# Altium integrated library Seeed-OPL-Connector.IntLib: 227 symbols
Pins are listed as number, name and electrical type; pins without a type are passive.

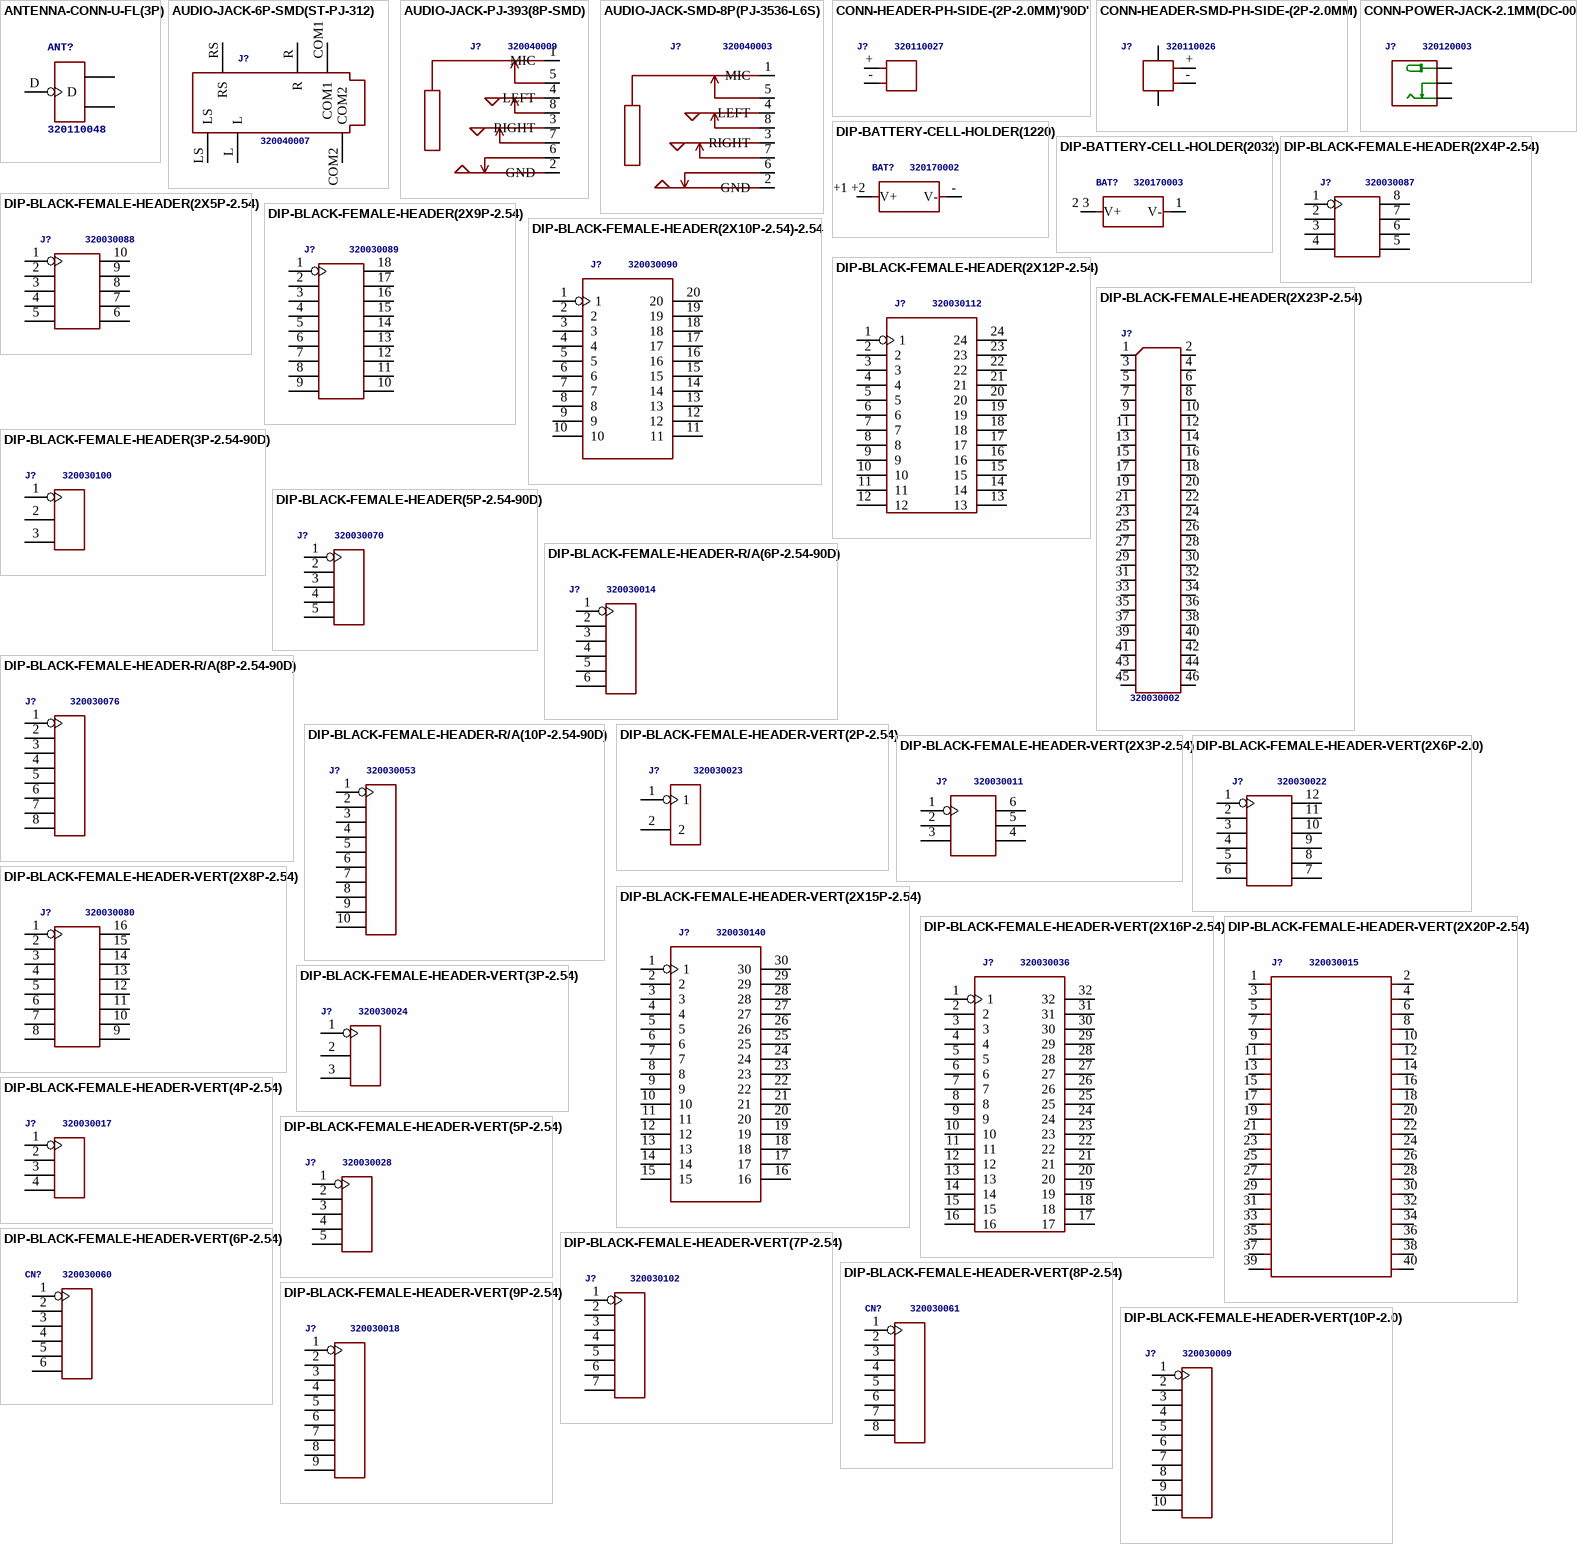
[diagram p0: symbols ANTENNA-CONN-U-FL(3P) to DIP-BLACK-FEMALE-HEADER-VERT(10P-2.0)]

## ANTENNA-CONN-U-FL(3P)
designator ANT?, comment 320110048
footprint U-FL3P-SMD-2.6X2.6X1.0MM
pins: D, GND1, GND2

## AUDIO-JACK-6P-SMD(ST-PJ-312)
designator J?, comment 320040007
MPN: ST-PJ-312
footprint AUDIO6P-SMD-3.5-14.0X6.4X5.0MM
pins: COM1, COM2, L, LS, R, RS

## AUDIO-JACK-PJ-393(8P-SMD)
designator J?, comment 320040009
MPN: PJ-393
footprint AUDIO8P-SMD-3.5-14.5X6.1X4.0MM
pins: 1 MIC, 2 GND, 3 RIGHT, 4 LEFT, 5, 6, 7, 8

## AUDIO-JACK-SMD-8P(PJ-3536-L6S)
designator J?, comment 320040003
MPN: PJ-3536-L6S
footprint AUDIO8P-SMD-3.5-14.5X6X5MM
pins: 1 MIC, 2 GND, 3 RIGHT, 4 LEFT, 5, 6, 7, 8

## CONN-HEADER-PH-SIDE-(2P-2.0MM)'90D'
designator J?, comment 320110027
footprint H2-2.0-90D
pins: + P$1, - P$2

## CONN-HEADER-SMD-PH-SIDE-(2P-2.0MM)
designator J?, comment 320110026
footprint HW2-SMD-2.0-90D
pins: 3, 4, + 1, - 2

## CONN-POWER-JACK-2.1MM(DC-005)
designator J?, comment 320120003
MPN: DC-005
footprint DCJ3P-14.2X11.0X9.0MM
pins: +, -1 -, -2 CDN

## DIP-BATTERY-CELL-HOLDER(1220)
designator BAT?, comment 320170002
footprint BAT2P-13.5-CR1220
pins: +1 +2 V+, - V-

## DIP-BATTERY-CELL-HOLDER(2032)
designator BAT?, comment 320170003
footprint BAT2P-20.32-CR2032
pins: 1 V-, 2 3 V+

## DIP-BLACK-FEMALE-HEADER(2X4P-2.54)
designator J?, comment 320030087
footprint H2X4-2.54
pins: 1, 2, 3, 4, 5, 6, 7, 8

## DIP-BLACK-FEMALE-HEADER(2X5P-2.54)
designator J?, comment 320030088
MPN: F185-1210A0BSYA1
footprint H2X5-2.54
pins: 1, 2, 3, 4, 5, 6, 7, 8, 9, 10

## DIP-BLACK-FEMALE-HEADER(2X9P-2.54)
designator J?, comment 320030089
MPN: F185-1218A0BSYA1
footprint H2X9-2.54
pins: 1, 2, 3, 4, 5, 6, 7, 8, 9, 10, 11, 12, 13, 14, 15, 16, 17, 18

## DIP-BLACK-FEMALE-HEADER(2X10P-2.54)-2.54
designator J?, comment 320030090
MPN: F185-1210A0BA1
footprint H2X10-2.54
pins: 1, 2, 3, 4, 5, 6, 7, 8, 9, 10, 11, 12, 13, 14, 15, 16, 17, 18, 19, 20

## DIP-BLACK-FEMALE-HEADER(2X12P-2.54)
designator J?, comment 320030112
MPN: F185-1224A0BSYA1
footprint H2X12-2.54
pins: 1, 2, 3, 4, 5, 6, 7, 8, 9, 10, 11, 12, 13, 14, 15, 16, 17, 18, 19, 20, 21, 22, 23, 24

## DIP-BLACK-FEMALE-HEADER(2X23P-2.54)
designator J?, comment 320030002
MPN: F185-1223A0ASYC1
footprint H2X23-2.54
pins: 1 P$1, 2 P$2, 3 P$3, 4 P$4, 5 P$5, 6 P$6, 7 P$7, 8 P$8, 9 P$9, 10 P$10, 11 P$11, 12 P$12, 13 P$13, 14 P$14, 15 P$15, 16 P$16, 17 P$17, 18 P$18, 19 P$19, 20 P$20, 21 P$21, 22 P$22, 23 P$23, 24 P$24, 25 P$25, 26 P$26, 27 P$27, 28 P$28, 29 P$29, 30 P$30, 31 P$31, 32 P$32, 33 P$33, 34 P$34, 35 P$35, 36 P$36, 37 P$37, 38 P$38, 39 P$39, 40 P$40, 41 P$41, 42 P$42, 43 P$43, 44 P$44, 45 P$45, 46 P$46

## DIP-BLACK-FEMALE-HEADER(3P-2.54-90D)
designator J?, comment 320030100
footprint H3-2.54-90D-FEMALE
pins: 1 P$1, 2 P$2, 3 P$3

## DIP-BLACK-FEMALE-HEADER(5P-2.54-90D)
designator J?, comment 320030070
MPN: F185-1105A1BRYA1
footprint H5-2.54-90D-FEMALE
pins: 1, 2, 3, 4, 5

## DIP-BLACK-FEMALE-HEADER-R/A(6P-2.54-90D)
designator J?, comment 320030014
footprint H6-2.54-90D-FEMALE
pins: 1, 2, 3, 4, 5, 6

## DIP-BLACK-FEMALE-HEADER-R/A(8P-2.54-90D)
designator J?, comment 320030076
footprint H8-2.54-90D-FEMALE
pins: 1, 2, 3, 4, 5, 6, 7, 8

## DIP-BLACK-FEMALE-HEADER-R/A(10P-2.54-90D)
designator J?, comment 320030053
footprint H10-2.54-90D-FEMALE
pins: 1, 2, 3, 4, 5, 6, 7, 8, 9, 10

## DIP-BLACK-FEMALE-HEADER-VERT(2P-2.54)
designator J?, comment 320030023
MPN: F185-1102A1BSYA1
footprint H2-2.54
pins: 1, 2

## DIP-BLACK-FEMALE-HEADER-VERT(2X3P-2.54)
designator J?, comment 320030011
MPN: F185-1203A1BSYA1
footprint H2X3-2.54
pins: 1, 2, 3, 4, 5, 6

## DIP-BLACK-FEMALE-HEADER-VERT(2X6P-2.0)
designator J?, comment 320030022
footprint H2X6-2.0
pins: 1, 2, 3, 4, 5, 6, 7, 8, 9, 10, 11, 12

## DIP-BLACK-FEMALE-HEADER-VERT(2X8P-2.54)
designator J?, comment 320030080
MPN: F185-1216A0BSYA1
footprint H2X8-2.54
pins: 1, 2, 3, 4, 5, 6, 7, 8, 9, 10, 11, 12, 13, 14, 15, 16

## DIP-BLACK-FEMALE-HEADER-VERT(2X15P-2.54)
designator J?, comment 320030140
MPN: F185-1230A0BSYA1
footprint H2X15-2.54
pins: 1, 2, 3, 4, 5, 6, 7, 8, 9, 10, 11, 12, 13, 14, 15, 16, 17, 18, 19, 20, 21, 22, 23, 24, 25, 26, 27, 28, 29, 30

## DIP-BLACK-FEMALE-HEADER-VERT(2X16P-2.54)
designator J?, comment 320030036
MPN: F185-1232A0BSYA1
footprint H2X16-2.54
pins: 1, 2, 3, 4, 5, 6, 7, 8, 9, 10, 11, 12, 13, 14, 15, 16, 17, 18, 19, 20, 21, 22, 23, 24, 25, 26, 27, 28, 29, 30, 31, 32

## DIP-BLACK-FEMALE-HEADER-VERT(2X20P-2.54)
designator J?, comment 320030015
MPN: F185-1240A0BSYA1
footprint H2X23-2.54
pins: 1 3.3V, 2 5V, 3 GPIO02, 4 5V@1, 5 GPIO03, 6 GND@~{7}, 7 GPIO04, 8 GPIO14, 9 GND, 10 GPIO15, 11 GPIO17, 12 GPIO18, 13 GPIO27, 14 GND@6, 15 GPIO22, 16 GPIO23, 17 3.3V@1, 18 GPIO24, 19 GPIO10, 20 GND@5, 21 GPIO09, 22 GPIO25, 23 GPIO11, 24 GPIO08, 25 GND@1, 26 GPIO07, 27 ID_SD, 28 ID_SC, 29 GPIO05, 30 GND@4, 31 GPIO06, 32 GPIO12, 33 GPIO13, 34 GND@3, 35 GPIO19, 36 GPIO16, 37 GPIO26, 38 GPIO20, 39 GND@2, 40 GPIO21

## DIP-BLACK-FEMALE-HEADER-VERT(3P-2.54)
designator J?, comment 320030024
MPN: F185-1103A0BSYA1
footprint H3-2.54
pins: 1 P$1, 2 P$2, 3 P$3

## DIP-BLACK-FEMALE-HEADER-VERT(4P-2.54)
designator J?, comment 320030017
MPN: F185-1104A1BSYA1
footprint H4-2.54
pins: 1 P$1, 2 P$2, 3 P$3, 4 P$4

## DIP-BLACK-FEMALE-HEADER-VERT(5P-2.54)
designator J?, comment 320030028
MPN: F185-1105A0BSYA1
footprint H5-2.54
pins: 1, 2, 3, 4, 5

## DIP-BLACK-FEMALE-HEADER-VERT(6P-2.54)
designator CN?, comment 320030060
MPN: F185-1106A1BSYC1
footprint H6-2.54
pins: 1, 2, 3, 4, 5, 6

## DIP-BLACK-FEMALE-HEADER-VERT(7P-2.54)
designator J?, comment 320030102
MPN: F185-1107A0BSYA1
footprint H7-2.54
pins: 1, 2, 3, 4, 5, 6, 7

## DIP-BLACK-FEMALE-HEADER-VERT(8P-2.54)
designator CN?, comment 320030061
MPN: F185-1108A1BSYC1
footprint H8-2.54
pins: 1, 2, 3, 4, 5, 6, 7, 8

## DIP-BLACK-FEMALE-HEADER-VERT(9P-2.54)
designator J?, comment 320030018
MPN: F243-1109A0BMUB2
footprint H9-2.54
pins: 1, 2, 3, 4, 5, 6, 7, 8, 9

## DIP-BLACK-FEMALE-HEADER-VERT(10P-2.0)
designator J?, comment 320030009
MPN: F243-1110A1BSUA1
footprint H10-2.0
pins: 1, 2, 3, 4, 5, 6, 7, 8, 9, 10

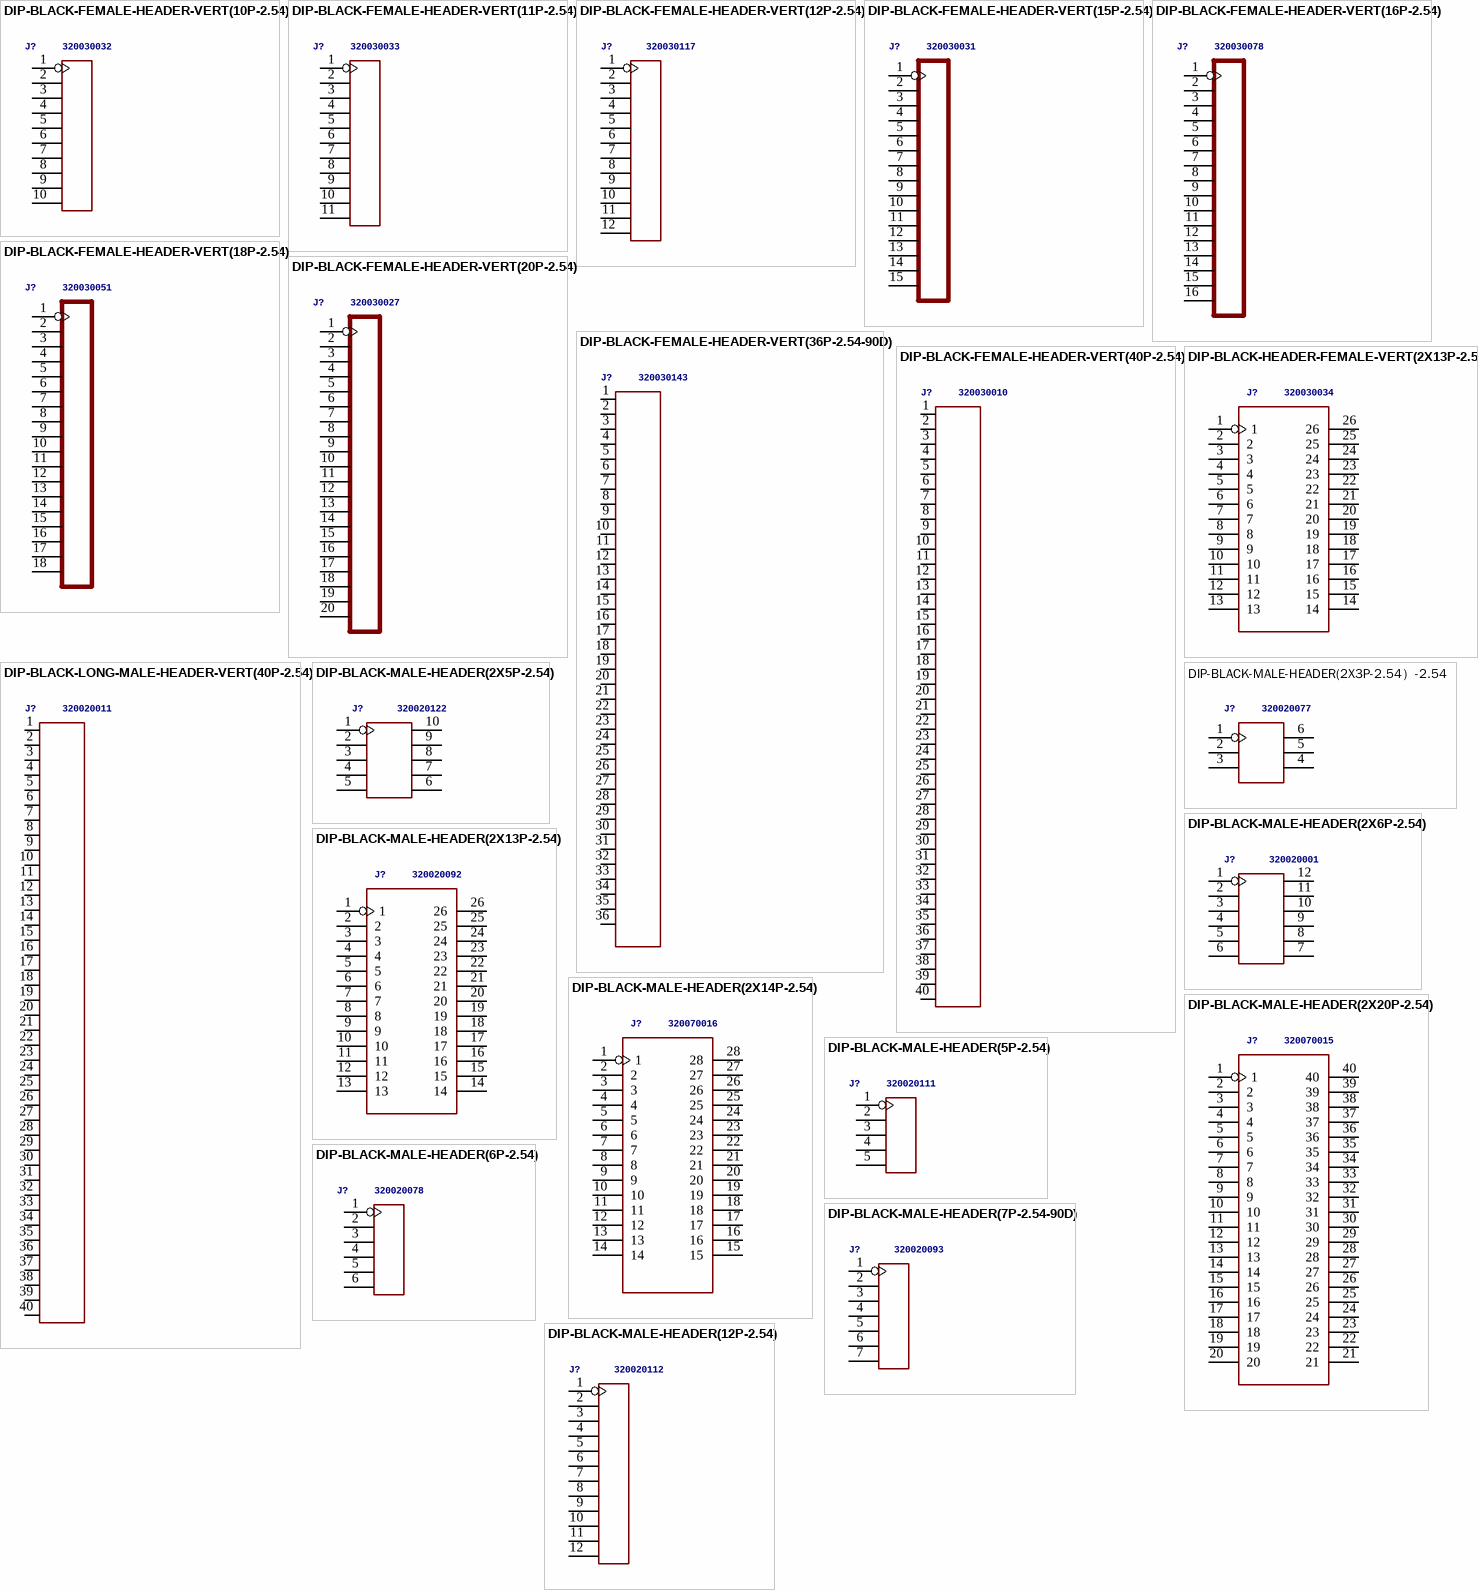
[diagram p1: symbols DIP-BLACK-FEMALE-HEADER-VERT(10P-2.54) to DIP-BLACK-MALE-HEADER(12P-2.54)]

## DIP-BLACK-FEMALE-HEADER-VERT(10P-2.54)
designator J?, comment 320030032
footprint H10-2.54
pins: 1, 2, 3, 4, 5, 6, 7, 8, 9, 10

## DIP-BLACK-FEMALE-HEADER-VERT(11P-2.54)
designator J?, comment 320030033
MPN: F185-1111A0BSYA1
footprint H11-2.54
pins: 1, 2, 3, 4, 5, 6, 7, 8, 9, 10, 11

## DIP-BLACK-FEMALE-HEADER-VERT(12P-2.54)
designator J?, comment 320030117
MPN: F185-1112A0BSYA1
footprint H12-2.54
pins: 1, 2, 3, 4, 5, 6, 7, 8, 9, 10, 11, 12

## DIP-BLACK-FEMALE-HEADER-VERT(15P-2.54)
designator J?, comment 320030031
footprint H15-2.54
pins: 1, 2, 3, 4, 5, 6, 7, 8, 9, 10, 11, 12, 13, 14, 15

## DIP-BLACK-FEMALE-HEADER-VERT(16P-2.54)
designator J?, comment 320030078
MPN: F185-1116A0BSYA1
footprint H16-2.54
pins: 1, 2, 3, 4, 5, 6, 7, 8, 9, 10, 11, 12, 13, 14, 15, 16

## DIP-BLACK-FEMALE-HEADER-VERT(18P-2.54)
designator J?, comment 320030051
MPN: F185-1118A0BSYA1
footprint H18-2.54
pins: 1, 2, 3, 4, 5, 6, 7, 8, 9, 10, 11, 12, 13, 14, 15, 16, 17, 18

## DIP-BLACK-FEMALE-HEADER-VERT(20P-2.54)
designator J?, comment 320030027
MPN: F185-1120A0BSYA1
footprint H20-2.54
pins: 1, 2, 3, 4, 5, 6, 7, 8, 9, 10, 11, 12, 13, 14, 15, 16, 17, 18, 19, 20

## DIP-BLACK-FEMALE-HEADER-VERT(36P-2.54-90D)
designator J?, comment 320030143
MPN: DIP-Black-Female-Header-VERT
footprint H36-2.54-90D-FEMALE
pins: 1 P$1, 2 P$2, 3 P$3, 4 P$4, 5 P$5, 6 P$6, 7 P$7, 8 P$8, 9 P$9, 10 P$10, 11 P$11, 12 P$12, 13 P$13, 14 P$14, 15 P$15, 16 P$16, 17 P$17, 18 P$18, 19 P$19, 20 P$20, 21 P$21, 22 P$22, 23 P$23, 24 P$24, 25 P$25, 26 P$26, 27 P$27, 28 P$28, 29 P$29, 30 P$30, 31 P$31, 32 P$32, 33 P$33, 34 P$34, 35 P$35, 36 P$36

## DIP-BLACK-FEMALE-HEADER-VERT(40P-2.54)
designator J?, comment 320030010
MPN: F185-1140A0BSYA1
footprint H40-2.54
pins: 1 P$1, 2 P$2, 3 P$3, 4 P$4, 5 P$5, 6 P$6, 7 P$7, 8 P$8, 9 P$9, 10 P$10, 11 P$11, 12 P$12, 13 P$13, 14 P$14, 15 P$15, 16 P$16, 17 P$17, 18 P$18, 19 P$19, 20 P$20, 21 P$21, 22 P$22, 23 P$23, 24 P$24, 25 P$25, 26 P$26, 27 P$27, 28 P$28, 29 P$29, 30 P$30, 31 P$31, 32 P$32, 33 P$33, 34 P$34, 35 P$35, 36 P$36, 37 P$37, 38 P$38, 39 P$39, 40 P$40

## DIP-BLACK-HEADER-FEMALE-VERT(2X13P-2.54)
designator J?, comment 320030034
MPN: F185-1226A0BSYB1
footprint H2X13-2.54
pins: 1, 2, 3, 4, 5, 6, 7, 8, 9, 10, 11, 12, 13, 14, 15, 16, 17, 18, 19, 20, 21, 22, 23, 24, 25, 26

## DIP-BLACK-LONG-MALE-HEADER-VERT(40P-2.54)
designator J?, comment 320020011
MPN: P125-1140AOBS210A1
footprint H40-2.54
pins: 1 P$1, 2 P$2, 3 P$3, 4 P$4, 5 P$5, 6 P$6, 7 P$7, 8 P$8, 9 P$9, 10 P$10, 11 P$11, 12 P$12, 13 P$13, 14 P$14, 15 P$15, 16 P$16, 17 P$17, 18 P$18, 19 P$19, 20 P$20, 21 P$21, 22 P$22, 23 P$23, 24 P$24, 25 P$25, 26 P$26, 27 P$27, 28 P$28, 29 P$29, 30 P$30, 31 P$31, 32 P$32, 33 P$33, 34 P$34, 35 P$35, 36 P$36, 37 P$37, 38 P$38, 39 P$39, 40 P$40

## DIP-BLACK-MALE-HEADER(2X3P-2.54）-2.54
designator J?, comment 320020077
MPN: P125-12A1BS116A1
footprint H2X3-2.54
pins: 1, 2, 3, 4, 5, 6

## DIP-BLACK-MALE-HEADER(2X5P-2.54)
designator J?, comment 320020122
MPN: P125-1210A0AS116A1
footprint H2X5-2.54
pins: 1, 2, 3, 4, 5, 6, 7, 8, 9, 10

## DIP-BLACK-MALE-HEADER(2X6P-2.54)
designator J?, comment 320020001
MPN: P125-1212A0AS116A1
footprint H2X6-2.54
pins: 1, 2, 3, 4, 5, 6, 7, 8, 9, 10, 11, 12

## DIP-BLACK-MALE-HEADER(2X13P-2.54)
designator J?, comment 320020092
MPN: P125-1226A0AS116A1
footprint H2X13-2.54
pins: 1, 2, 3, 4, 5, 6, 7, 8, 9, 10, 11, 12, 13, 14, 15, 16, 17, 18, 19, 20, 21, 22, 23, 24, 25, 26

## DIP-BLACK-MALE-HEADER(2X14P-2.54)
designator J?, comment 320070016
MPN: ICS-28P-15.24
footprint H2X14-2.54
pins: 1, 2, 3, 4, 5, 6, 7, 8, 9, 10, 11, 12, 13, 14, 15, 16, 17, 18, 19, 20, 21, 22, 23, 24, 25, 26, 27, 28

## DIP-BLACK-MALE-HEADER(2X20P-2.54)
designator J?, comment 320070015
MPN: ICS-40P-15.24
footprint H2X23-2.54
pins: 1, 2, 3, 4, 5, 6, 7, 8, 9, 10, 11, 12, 13, 14, 15, 16, 17, 18, 19, 20, 21, 22, 23, 24, 25, 26, 27, 28, 29, 30, 31, 32, 33, 34, 35, 36, 37, 38, 39, 40

## DIP-BLACK-MALE-HEADER(5P-2.54)
designator J?, comment 320020111
MPN: P125-1105A0BASYA1
footprint H5-2.54
pins: 1, 2, 3, 4, 5

## DIP-BLACK-MALE-HEADER(6P-2.54)
designator J?, comment 320020078
MPN: P125-1106A1BS116A1
footprint H6-2.54
pins: 1, 2, 3, 4, 5, 6

## DIP-BLACK-MALE-HEADER(7P-2.54-90D)
designator J?, comment 320020093
MPN: P125-1107A0BR138A1
footprint H7-2.54-90D-MALE
pins: 1, 2, 3, 4, 5, 6, 7

## DIP-BLACK-MALE-HEADER(12P-2.54)
designator J?, comment 320020112
MPN: P125-1112A0BS116AX
footprint H12-2.54
pins: 1, 2, 3, 4, 5, 6, 7, 8, 9, 10, 11, 12

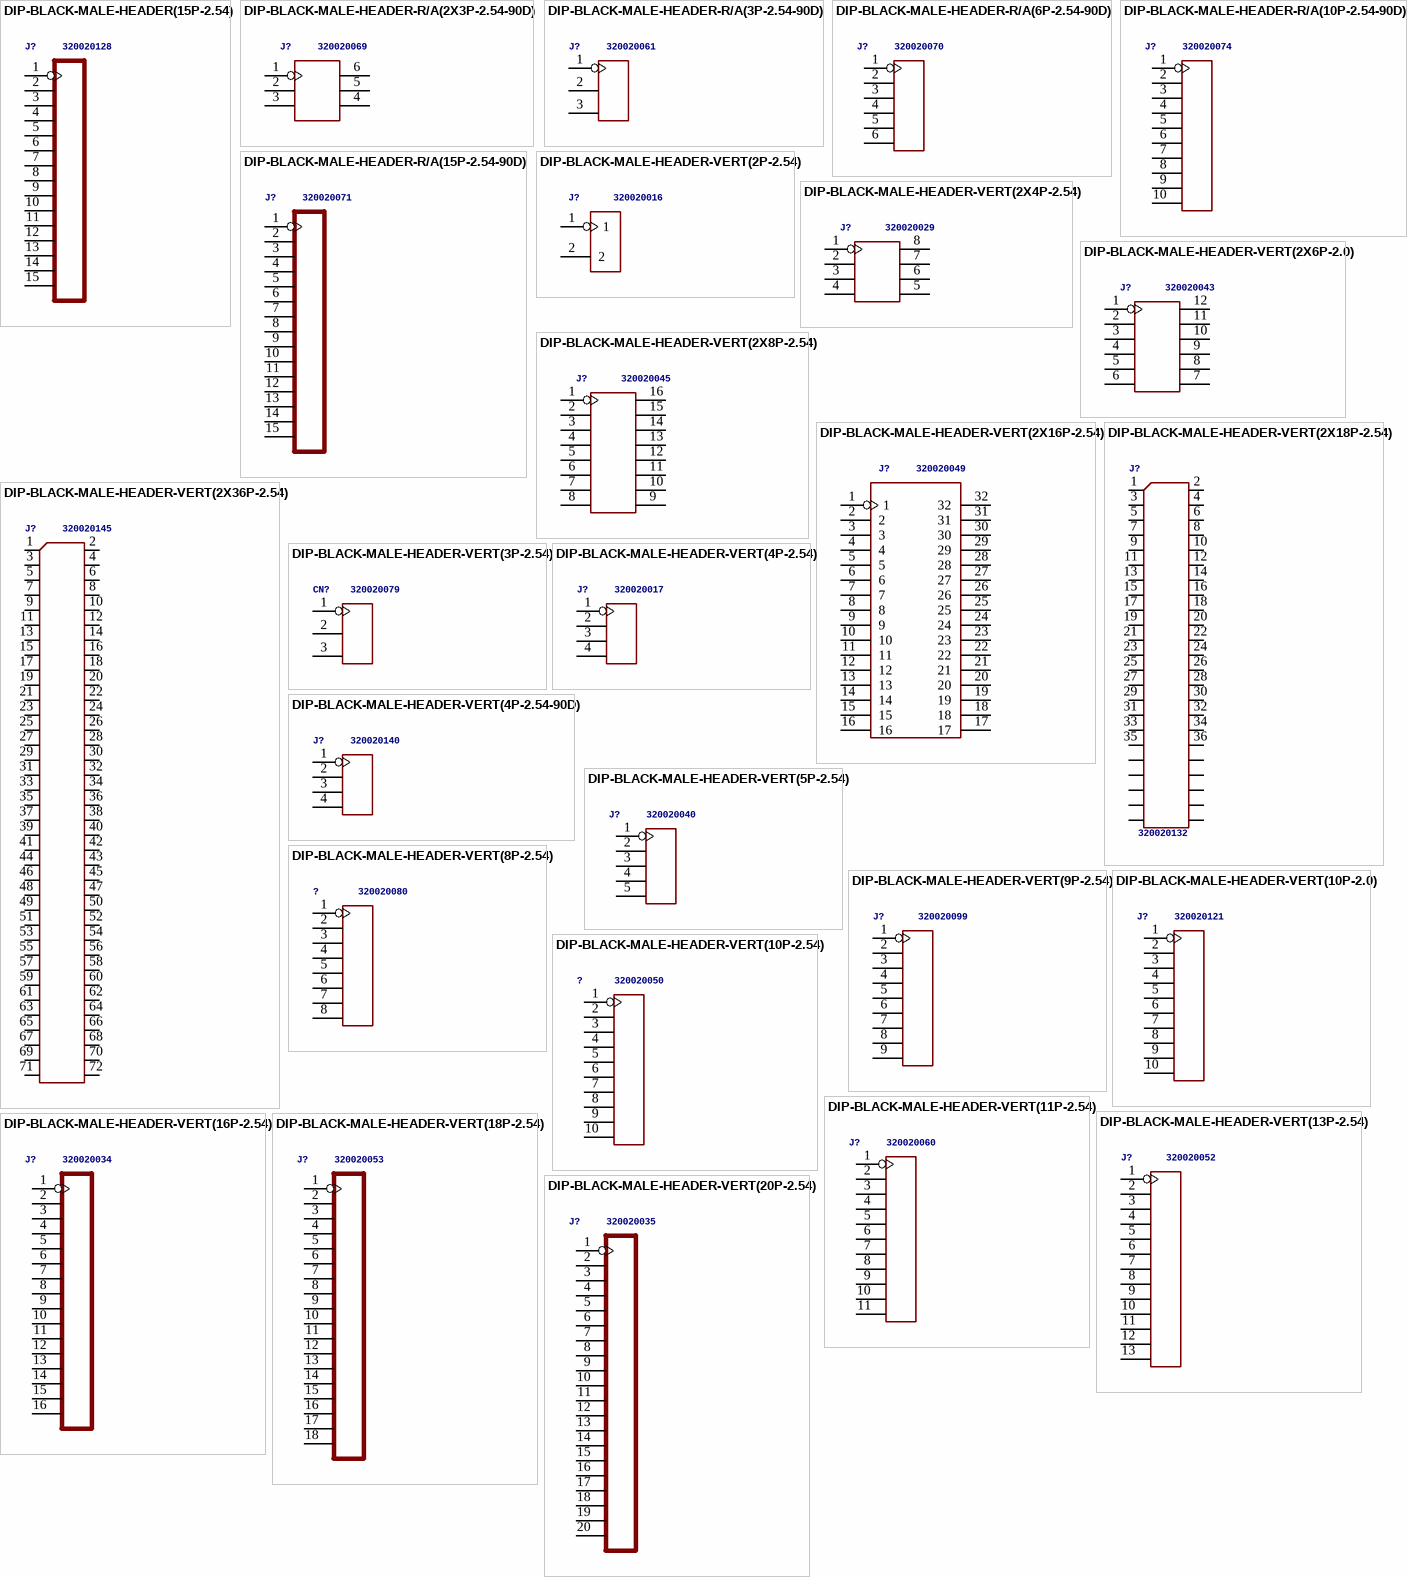
[diagram p2: symbols DIP-BLACK-MALE-HEADER(15P-2.54) to DIP-BLACK-MALE-HEADER-VERT(20P-2.54)]

## DIP-BLACK-MALE-HEADER(15P-2.54)
designator J?, comment 320020128
MPN: P125-1115A0BS116AX
footprint H15-2.54
pins: 1, 2, 3, 4, 5, 6, 7, 8, 9, 10, 11, 12, 13, 14, 15

## DIP-BLACK-MALE-HEADER-R/A(2X3P-2.54-90D)
designator J?, comment 320020069
MPN: P125-1206A0BR116A2
footprint H2X3-2.54-90D
pins: 1, 2, 3, 4, 5, 6

## DIP-BLACK-MALE-HEADER-R/A(3P-2.54-90D)
designator J?, comment 320020061
footprint H3-2.54-90D-MALE
pins: 1 P$1, 2 P$2, 3 P$3

## DIP-BLACK-MALE-HEADER-R/A(6P-2.54-90D)
designator J?, comment 320020070
footprint H6-2.54-90D-MALE
pins: 1, 2, 3, 4, 5, 6

## DIP-BLACK-MALE-HEADER-R/A(10P-2.54-90D)
designator J?, comment 320020074
footprint H10-2.54-90D-MALE
pins: 1, 2, 3, 4, 5, 6, 7, 8, 9, 10

## DIP-BLACK-MALE-HEADER-R/A(15P-2.54-90D)
designator J?, comment 320020071
MPN: P125-1115A0BR138A1
footprint H15-2.54-90D-MALE
pins: 1, 2, 3, 4, 5, 6, 7, 8, 9, 10, 11, 12, 13, 14, 15

## DIP-BLACK-MALE-HEADER-VERT(2P-2.54)
designator J?, comment 320020016
MPN: P125-1102A0BS116A1
footprint H2-2.54
pins: 1, 2

## DIP-BLACK-MALE-HEADER-VERT(2X4P-2.54)
designator J?, comment 320020029
MPN: P125-1208A0BS116A2
footprint H2X4-2.54
pins: 1, 2, 3, 4, 5, 6, 7, 8

## DIP-BLACK-MALE-HEADER-VERT(2X6P-2.0)
designator J?, comment 320020043
MPN: P220-1212A0BS116A1
footprint H2X6-2.0
pins: 1, 2, 3, 4, 5, 6, 7, 8, 9, 10, 11, 12

## DIP-BLACK-MALE-HEADER-VERT(2X8P-2.54)
designator J?, comment 320020045
MPN: P125-1216A0AS116A1
footprint H2X8-2.54
pins: 1, 2, 3, 4, 5, 6, 7, 8, 9, 10, 11, 12, 13, 14, 15, 16

## DIP-BLACK-MALE-HEADER-VERT(2X16P-2.54)
designator J?, comment 320020049
MPN: P125-1232A0AS116A1
footprint H2X16-2.54
pins: 1, 2, 3, 4, 5, 6, 7, 8, 9, 10, 11, 12, 13, 14, 15, 16, 17, 18, 19, 20, 21, 22, 23, 24, 25, 26, 27, 28, 29, 30, 31, 32

## DIP-BLACK-MALE-HEADER-VERT(2X18P-2.54)
designator J?, comment 320020132
MPN: P125-1236A0AS116A1
footprint H2X18-2.54
pins: 1 P$1, 2 P$2, 3 P$3, 4 P$4, 5 P$5, 6 P$6, 7 P$7, 8 P$8, 9 P$9, 10 P$10, 11 P$11, 12 P$12, 13 P$13, 14 P$14, 15 P$15, 16 P$16, 17 P$17, 18 P$18, 19 P$19, 20 P$20, 21 P$21, 22 P$22, 23 P$23, 24 P$24, 25 P$25, 26 P$26, 27 P$27, 28 P$28, 29 P$29, 30 P$30, 31 P$31, 32 P$32, 33 P$33, 34 P$34, 35 P$35, 36 P$36, ?1 P$37, ?2 P$38, ?3 P$39, ?4 P$40, ?5 P$41, ?6 P$42, ?7 P$43, ?8 P$44, ?9 P$45, ?10 P$46

## DIP-BLACK-MALE-HEADER-VERT(2X36P-2.54)
designator J?, comment 320020145
MPN: P125-1136A0BR116A2
footprint H2X36-2.54
pins: 1 P$1, 2 P$2, 3 P$3, 4 P$4, 5 P$5, 6 P$6, 7 P$7, 8 P$8, 9 P$9, 10 P$10, 11 P$11, 12 P$12, 13 P$13, 14 P$14, 15 P$15, 16 P$16, 17 P$17, 18 P$18, 19 P$19, 20 P$20, 21 P$21, 22 P$22, 23 P$23, 24 P$24, 25 P$25, 26 P$26, 27 P$27, 28 P$28, 29 P$29, 30 P$30, 31 P$31, 32 P$32, 33 P$33, 34 P$34, 35 P$35, 36 P$36, 37 P$37, 38 P$38, 39 P$39, 40 P$40, 41 P$41, 42 P$42, 43 P$43, 44 P$44, 45 P$45, 46 P$46, 47 P$47, 48 P$48, 49 P$49, 50 P$50, 51 P$51, 52 P$52, 53 P$53, 54 P$54, 55 P$55, 56 P$56, 57 P$57, 58 P$58, 59 P$59, 60 P$60, 61 P$61, 62 P$62, 63 P$63, 64 P$64, 65 P$65, 66 P$66, 67 P$67, 68 P$68, 69 P$69, 70 P$70, 71 P$71, 72 P$72

## DIP-BLACK-MALE-HEADER-VERT(3P-2.54)
designator CN?, comment 320020079
footprint H3-2.54
pins: 1 P$1, 2 P$2, 3 P$3

## DIP-BLACK-MALE-HEADER-VERT(4P-2.54)
designator J?, comment 320020017
MPN: P125-1104A0BS116A1
footprint H4-2.54
pins: 1 P$1, 2 P$2, 3 P$3, 4 P$4

## DIP-BLACK-MALE-HEADER-VERT(4P-2.54-90D)
designator J?, comment 320020140
MPN: P125-1104A0BR138A1
footprint H4-2.54-90D-MALE
pins: 1 P$1, 2 P$2, 3 P$3, 4 P$4

## DIP-BLACK-MALE-HEADER-VERT(5P-2.54)
designator J?, comment 320020040
footprint H5-2.54
pins: 1, 2, 3, 4, 5

## DIP-BLACK-MALE-HEADER-VERT(8P-2.54)
designator ?, comment 320020080
MPN: P125-1108A1BS116A1
footprint H8-2.54
pins: 1, 2, 3, 4, 5, 6, 7, 8

## DIP-BLACK-MALE-HEADER-VERT(9P-2.54)
designator J?, comment 320020099
MPN: P125-1109A0BS116AX
footprint H9-2.54
pins: 1, 2, 3, 4, 5, 6, 7, 8, 9

## DIP-BLACK-MALE-HEADER-VERT(10P-2.0)
designator J?, comment 320020121
footprint H10-2.0
pins: 1, 2, 3, 4, 5, 6, 7, 8, 9, 10

## DIP-BLACK-MALE-HEADER-VERT(10P-2.54)
designator ?, comment 320020050
MPN: P125-1110A0BS116AX
footprint H10-2.54
pins: 1, 2, 3, 4, 5, 6, 7, 8, 9, 10

## DIP-BLACK-MALE-HEADER-VERT(11P-2.54)
designator J?, comment 320020060
MPN: P125-1111A0BS116AX
footprint H11-2.54
pins: 1, 2, 3, 4, 5, 6, 7, 8, 9, 10, 11

## DIP-BLACK-MALE-HEADER-VERT(13P-2.54)
designator J?, comment 320020052
MPN: P125-1113A0BS116AX
footprint H13-2.54
pins: 1, 2, 3, 4, 5, 6, 7, 8, 9, 10, 11, 12, 13

## DIP-BLACK-MALE-HEADER-VERT(16P-2.54)
designator J?, comment 320020034
MPN: P125-1116A0BS116AX
footprint H16-2.54
pins: 1, 2, 3, 4, 5, 6, 7, 8, 9, 10, 11, 12, 13, 14, 15, 16

## DIP-BLACK-MALE-HEADER-VERT(18P-2.54)
designator J?, comment 320020053
MPN: P125-1118A0BS116AX
footprint H18-2.54
pins: 1, 2, 3, 4, 5, 6, 7, 8, 9, 10, 11, 12, 13, 14, 15, 16, 17, 18

## DIP-BLACK-MALE-HEADER-VERT(20P-2.54)
designator J?, comment 320020035
MPN: P125-1120A0BS116AX
footprint H20-2.54
pins: 1, 2, 3, 4, 5, 6, 7, 8, 9, 10, 11, 12, 13, 14, 15, 16, 17, 18, 19, 20

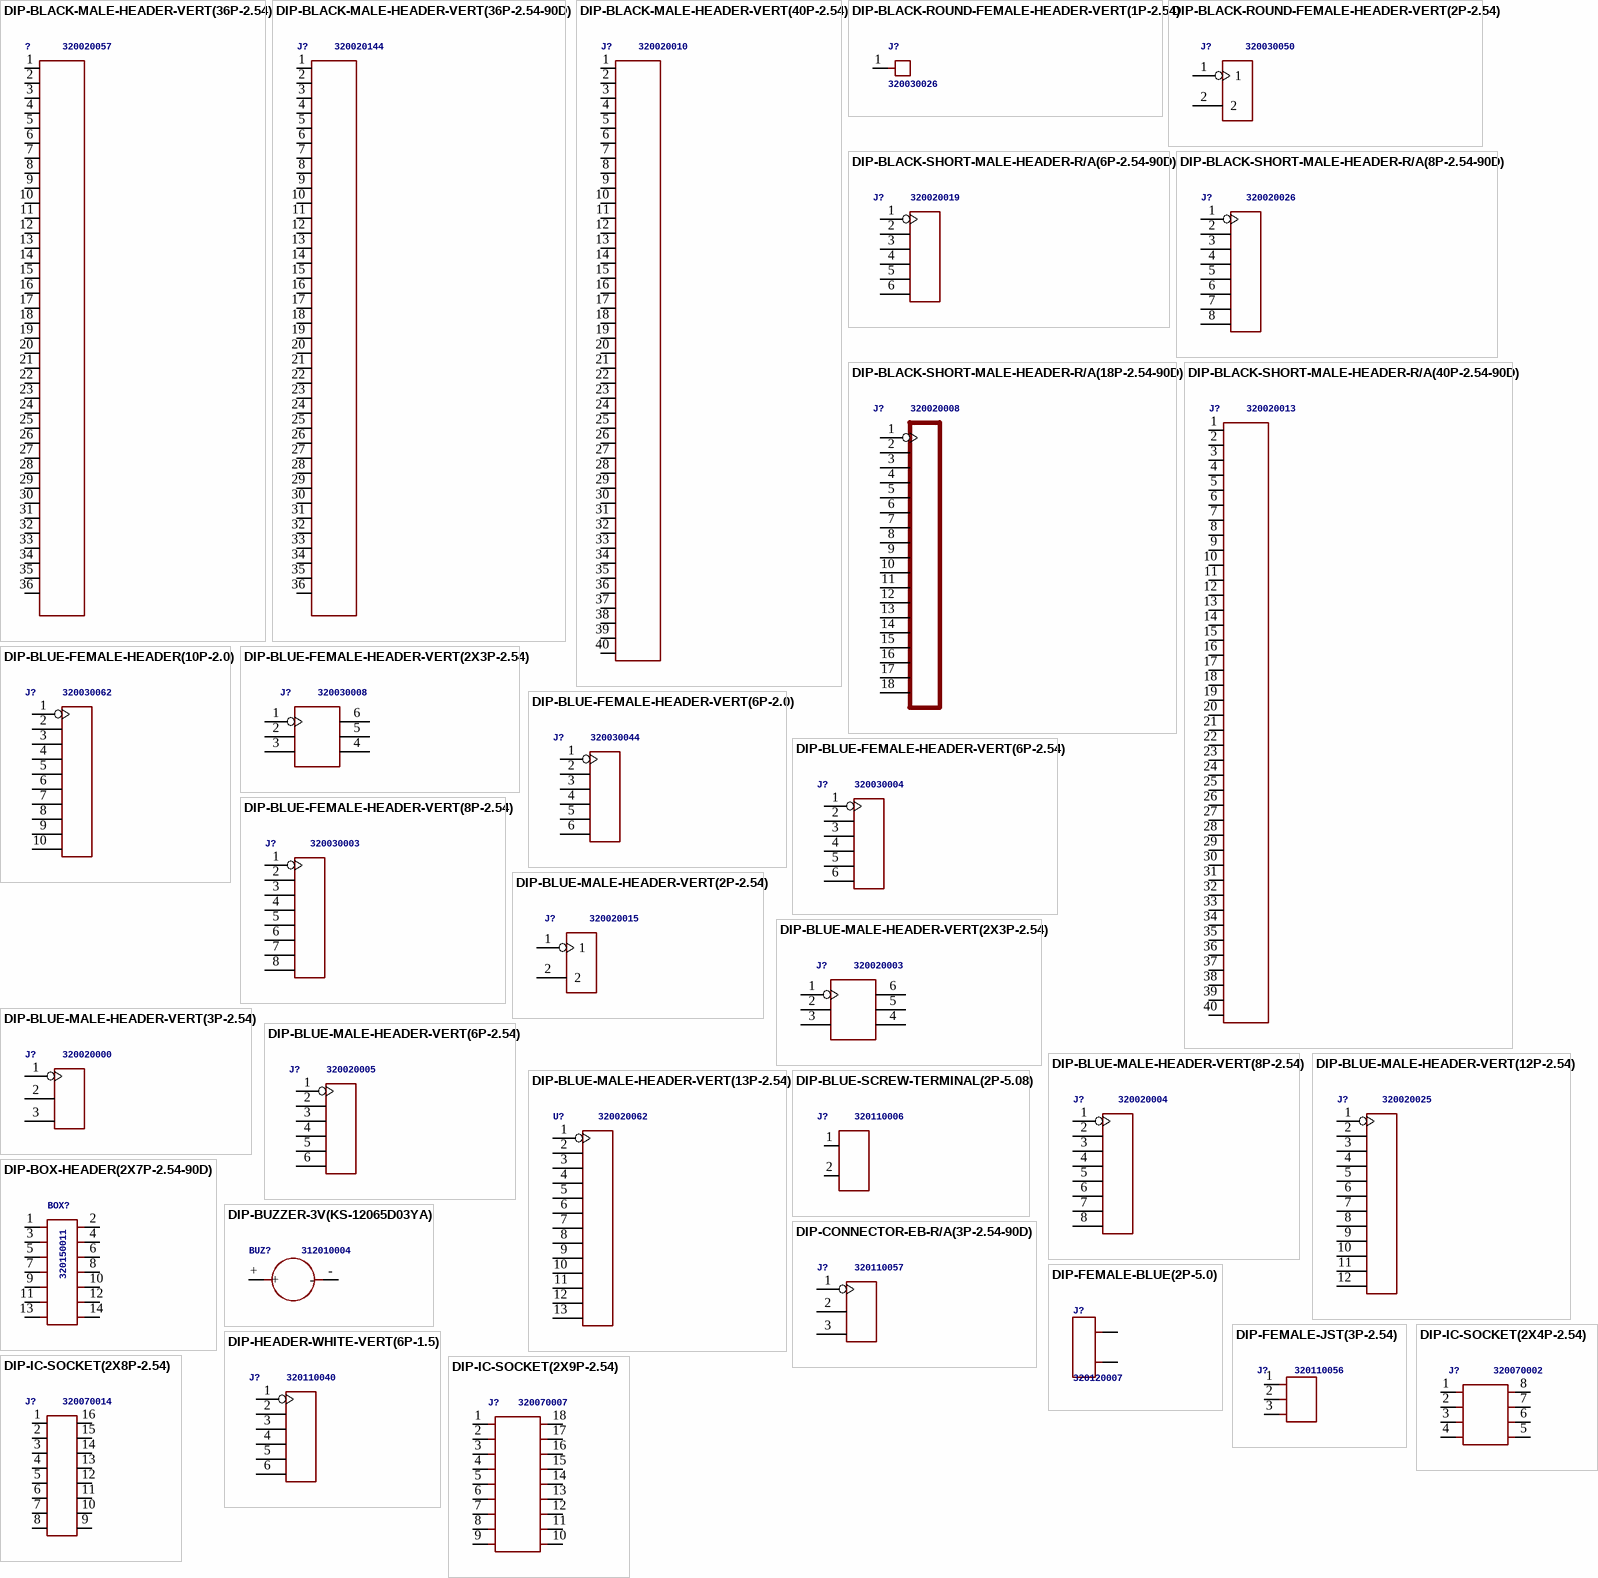
[diagram p3: symbols DIP-BLACK-MALE-HEADER-VERT(36P-2.54) to DIP-IC-SOCKET(2X9P-2.54)]

## DIP-BLACK-MALE-HEADER-VERT(36P-2.54)
designator ?, comment 320020057
MPN: P125-1136A0BS116AX
footprint H36-2.54
pins: 1 P$1, 2 P$2, 3 P$3, 4 P$4, 5 P$5, 6 P$6, 7 P$7, 8 P$8, 9 P$9, 10 P$10, 11 P$11, 12 P$12, 13 P$13, 14 P$14, 15 P$15, 16 P$16, 17 P$17, 18 P$18, 19 P$19, 20 P$20, 21 P$21, 22 P$22, 23 P$23, 24 P$24, 25 P$25, 26 P$26, 27 P$27, 28 P$28, 29 P$29, 30 P$30, 31 P$31, 32 P$32, 33 P$33, 34 P$34, 35 P$35, 36 P$36

## DIP-BLACK-MALE-HEADER-VERT(36P-2.54-90D)
designator J?, comment 320020144
MPN: P125-1136A0BR116A1
footprint H36-2.54-90D-MALE
pins: 1 P$1, 2 P$2, 3 P$3, 4 P$4, 5 P$5, 6 P$6, 7 P$7, 8 P$8, 9 P$9, 10 P$10, 11 P$11, 12 P$12, 13 P$13, 14 P$14, 15 P$15, 16 P$16, 17 P$17, 18 P$18, 19 P$19, 20 P$20, 21 P$21, 22 P$22, 23 P$23, 24 P$24, 25 P$25, 26 P$26, 27 P$27, 28 P$28, 29 P$29, 30 P$30, 31 P$31, 32 P$32, 33 P$33, 34 P$34, 35 P$35, 36 P$36

## DIP-BLACK-MALE-HEADER-VERT(40P-2.54)
designator J?, comment 320020010
footprint H40-2.54
pins: 1 P$1, 2 P$2, 3 P$3, 4 P$4, 5 P$5, 6 P$6, 7 P$7, 8 P$8, 9 P$9, 10 P$10, 11 P$11, 12 P$12, 13 P$13, 14 P$14, 15 P$15, 16 P$16, 17 P$17, 18 P$18, 19 P$19, 20 P$20, 21 P$21, 22 P$22, 23 P$23, 24 P$24, 25 P$25, 26 P$26, 27 P$27, 28 P$28, 29 P$29, 30 P$30, 31 P$31, 32 P$32, 33 P$33, 34 P$34, 35 P$35, 36 P$36, 37 P$37, 38 P$38, 39 P$39, 40 P$40

## DIP-BLACK-ROUND-FEMALE-HEADER-VERT(1P-2.54)
designator J?, comment 320030026
MPN: RF130-1013BBS0741
footprint 1P-65/35MIL
pins: 1

## DIP-BLACK-ROUND-FEMALE-HEADER-VERT(2P-2.54)
designator J?, comment 320030050
MPN: RF130-1023ABS0741
footprint H2-2.54
pins: 1, 2

## DIP-BLACK-SHORT-MALE-HEADER-R/A(6P-2.54-90D)
designator J?, comment 320020019
footprint H6-2.54-90D-MALE
pins: 1, 2, 3, 4, 5, 6

## DIP-BLACK-SHORT-MALE-HEADER-R/A(8P-2.54-90D)
designator J?, comment 320020026
MPN: P125-1108A0BR138A1
footprint H8-2.54-90D-MALE
pins: 1, 2, 3, 4, 5, 6, 7, 8

## DIP-BLACK-SHORT-MALE-HEADER-R/A(18P-2.54-90D)
designator J?, comment 320020008
MPN: P125-1118A0BR138A1
footprint H18-2.54-90D-MALE
pins: 1, 2, 3, 4, 5, 6, 7, 8, 9, 10, 11, 12, 13, 14, 15, 16, 17, 18

## DIP-BLACK-SHORT-MALE-HEADER-R/A(40P-2.54-90D)
designator J?, comment 320020013
footprint H40-2.54-90D-MALE
pins: 1 P$1, 2 P$2, 3 P$3, 4 P$4, 5 P$5, 6 P$6, 7 P$7, 8 P$8, 9 P$9, 10 P$10, 11 P$11, 12 P$12, 13 P$13, 14 P$14, 15 P$15, 16 P$16, 17 P$17, 18 P$18, 19 P$19, 20 P$20, 21 P$21, 22 P$22, 23 P$23, 24 P$24, 25 P$25, 26 P$26, 27 P$27, 28 P$28, 29 P$29, 30 P$30, 31 P$31, 32 P$32, 33 P$33, 34 P$34, 35 P$35, 36 P$36, 37 P$37, 38 P$38, 39 P$39, 40 P$40

## DIP-BLUE-FEMALE-HEADER(10P-2.0)
designator J?, comment 320030062
MPN: F243-1110A1BSUC1
footprint H10-2.0
pins: 1, 2, 3, 4, 5, 6, 7, 8, 9, 10

## DIP-BLUE-FEMALE-HEADER-VERT(2X3P-2.54)
designator J?, comment 320030008
MPN: F185-1206A0BSYC1
footprint H2X3-2.54
pins: 1, 2, 3, 4, 5, 6

## DIP-BLUE-FEMALE-HEADER-VERT(6P-2.0)
designator J?, comment 320030044
MPN: F243-1106A0BSYA5
footprint H6-2.0
pins: 1, 2, 3, 4, 5, 6

## DIP-BLUE-FEMALE-HEADER-VERT(6P-2.54)
designator J?, comment 320030004
footprint H6-2.54
pins: 1, 2, 3, 4, 5, 6

## DIP-BLUE-FEMALE-HEADER-VERT(8P-2.54)
designator J?, comment 320030003
MPN: F185-1108A1BSYA1
footprint H8-2.54
pins: 1, 2, 3, 4, 5, 6, 7, 8

## DIP-BLUE-MALE-HEADER-VERT(2P-2.54)
designator J?, comment 320020015
MPN: P125-1102A0BS116A2
footprint H2-2.54
pins: 1, 2

## DIP-BLUE-MALE-HEADER-VERT(2X3P-2.54)
designator J?, comment 320020003
MPN: P125-1203A0BS116A1
footprint H2X3-2.54
pins: 1, 2, 3, 4, 5, 6

## DIP-BLUE-MALE-HEADER-VERT(3P-2.54)
designator J?, comment 320020000
MPN: P125-1103A0BS116A1
footprint H3-2.54
pins: 1 P$1, 2 P$2, 3 P$3

## DIP-BLUE-MALE-HEADER-VERT(6P-2.54)
designator J?, comment 320020005
MPN: P125-1106A0BS116A1
footprint H6-2.54
pins: 1, 2, 3, 4, 5, 6

## DIP-BLUE-MALE-HEADER-VERT(8P-2.54)
designator J?, comment 320020004
MPN: P125-1108A0BS116A1
footprint H8-2.54
pins: 1, 2, 3, 4, 5, 6, 7, 8

## DIP-BLUE-MALE-HEADER-VERT(12P-2.54)
designator J?, comment 320020025
MPN: P125-1112A0BASYA1
footprint H12-2.54
pins: 1, 2, 3, 4, 5, 6, 7, 8, 9, 10, 11, 12

## DIP-BLUE-MALE-HEADER-VERT(13P-2.54)
designator U?, comment 320020062
MPN: P125-1113A0BASYA1
footprint H13-2.54
pins: 1, 2, 3, 4, 5, 6, 7, 8, 9, 10, 11, 12, 13

## DIP-BLUE-SCREW-TERMINAL(2P-5.08)
designator J?, comment 320110006
MPN: GS009S-2P-2
footprint H2-5.0-10.5X8.0MM
pins: 1, 2

## DIP-BOX-HEADER(2X7P-2.54-90D)
designator BOX?, comment 320150011
MPN: B190-114A0BRBA1
footprint BOX2X7-2.54-90D
pins: 1 P$1, 2 P$2, 3 P$3, 4 P$4, 5 P$5, 6 P$6, 7 P$7, 8 P$8, 9 P$9, 10 P$10, 11 P$11, 12 P$12, 13 P$13, 14 P$14

## DIP-BUZZER-3V(KS-12065D03YA)
designator BUZ?, comment 312010004
MPN: KS-12065D03YA
footprint BZ2-7.6-D12.0XH6.5MM
pins: +, -

## DIP-CONNECTOR-EB-R/A(3P-2.54-90D)
designator J?, comment 320110057
MPN: B102-103-B0BBA
footprint HW3-2.54-90D-7.62X13.5MM
pins: 1 P$1, 2 P$2, 3 P$3

## DIP-FEMALE-BLUE(2P-5.0)
designator J?, comment 320120007
footprint H2-5.0
pins: 1 P$1, 2 P$2

## DIP-FEMALE-JST(3P-2.54)
designator J?, comment 320110056
MPN: B101-103A0BSBA1
footprint HW3-2.54-7.62X6.6MM
pins: 1 P$1, 2 P$2, 3 P$3

## DIP-HEADER-WHITE-VERT(6P-1.5)
designator J?, comment 320110040
MPN: 1.5-6P
footprint H6-1.5-10.5X3.6MM
pins: 1, 2, 3, 4, 5, 6

## DIP-IC-SOCKET(2X4P-2.54)
designator J?, comment 320070002
footprint SCK8-2.54-10.16X10.0MM
pins: 1 P$1, 2 P$2, 3 P$3, 4 P$4, 5 P$5, 6 P$6, 7 P$7, 8 P$8

## DIP-IC-SOCKET(2X8P-2.54)
designator J?, comment 320070014
footprint SCK16-2.54-22.32X10.0MM
pins: 1 P$1, 2 P$2, 3 P$3, 4 P$4, 5 P$5, 6 P$6, 7 P$7, 8 P$8, 9 P$9, 10 P$10, 11 P$11, 12 P$12, 13 P$13, 14 P$14, 15 P$15, 16 P$16

## DIP-IC-SOCKET(2X9P-2.54)
designator J?, comment 320070007
footprint SCK18-2.54-22.86X10.0MM
pins: 1, 2, 3, 4, 5, 6, 7, 8, 9, 10, 11, 12, 13, 14, 15, 16, 17, 18

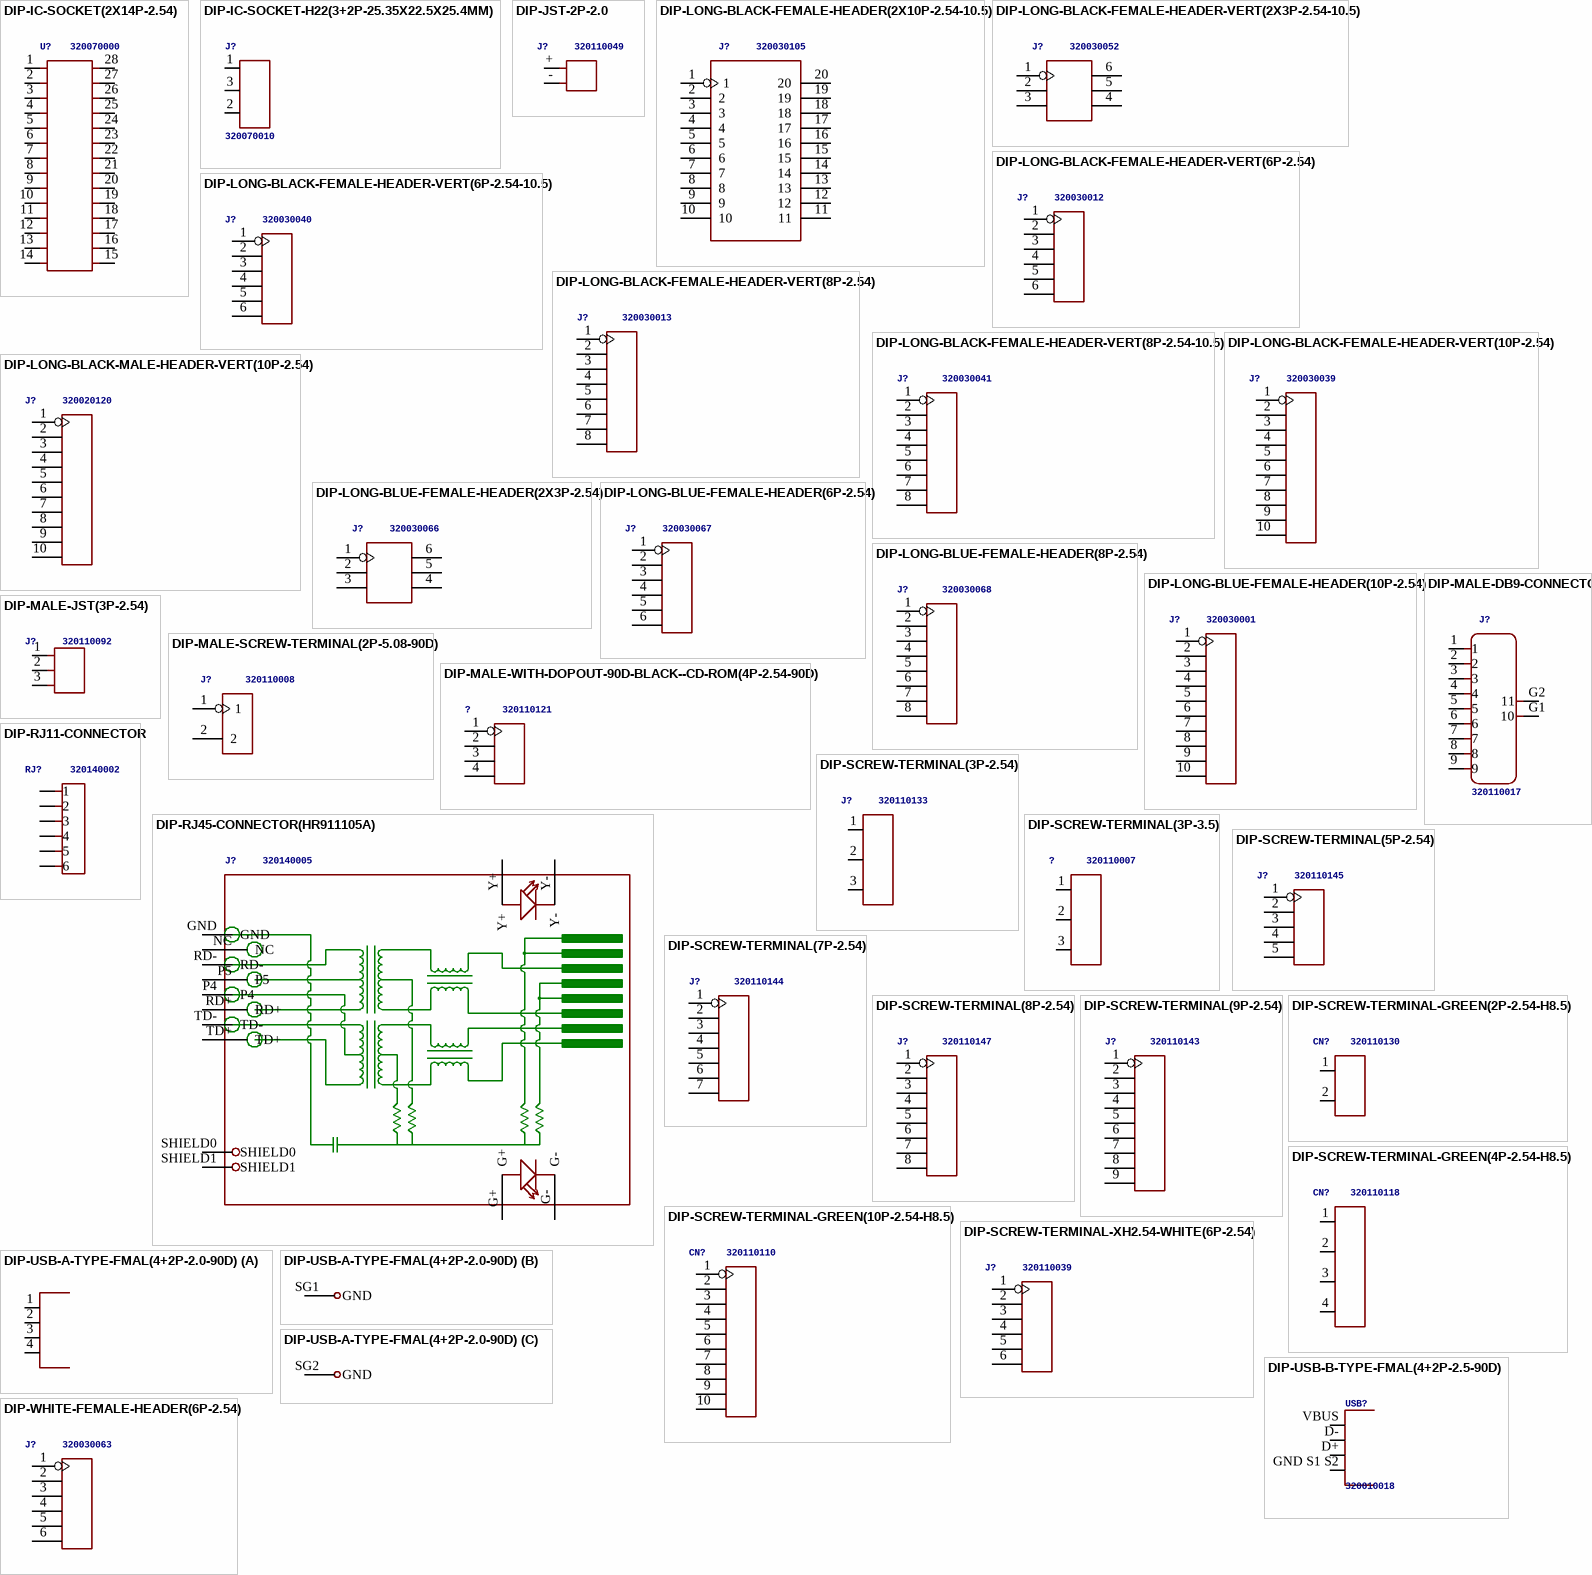
[diagram p4: symbols DIP-IC-SOCKET(2X14P-2.54) to DIP-WHITE-FEMALE-HEADER(6P-2.54)]

## DIP-IC-SOCKET(2X14P-2.54)
designator U?, comment 320070000
MPN: ICX-28P
footprint SCK28-2.54-35.6X10MM
pins: 1, 2, 3, 4, 5, 6, 7, 8, 9, 10, 11, 12, 13, 14, 15, 16, 17, 18, 19, 20, 21, 22, 23, 24, 25, 26, 27, 28

## DIP-IC-SOCKET-H22(3+2P-25.35X22.5X25.4MM)
designator J?, comment 320070010
MPN: H22
footprint 3P-4.0
pins: 1, 2 3, 3 2

## DIP-JST-2P-2.0
designator J?, comment 320110049
footprint H2-2.0-6X4.5MM
pins: + P$1, - P$2

## DIP-LONG-BLACK-FEMALE-HEADER(2X10P-2.54-10.5)
designator J?, comment 320030105
MPN: F185-1210A0ASYA1
footprint H2X10-2.54
pins: 1, 2, 3, 4, 5, 6, 7, 8, 9, 10, 11, 12, 13, 14, 15, 16, 17, 18, 19, 20

## DIP-LONG-BLACK-FEMALE-HEADER-VERT(2X3P-2.54-10.5)
designator J?, comment 320030052
MPN: F185-1206A0ASYC1
footprint H2X3-2.54
pins: 1, 2, 3, 4, 5, 6

## DIP-LONG-BLACK-FEMALE-HEADER-VERT(6P-2.54)
designator J?, comment 320030012
MPN: F185-1106A1BSYA2
footprint H6-2.54
pins: 1, 2, 3, 4, 5, 6

## DIP-LONG-BLACK-FEMALE-HEADER-VERT(6P-2.54-10.5)
designator J?, comment 320030040
MPN: F185-1106A0BSYA5
footprint H6-2.54
pins: 1, 2, 3, 4, 5, 6

## DIP-LONG-BLACK-FEMALE-HEADER-VERT(8P-2.54)
designator J?, comment 320030013
MPN: F185-2108A1BSYA1
footprint H8-2.54
pins: 1, 2, 3, 4, 5, 6, 7, 8

## DIP-LONG-BLACK-FEMALE-HEADER-VERT(8P-2.54-10.5)
designator J?, comment 320030041
MPN: F185-1108A0BSYA5
footprint H8-2.54
pins: 1, 2, 3, 4, 5, 6, 7, 8

## DIP-LONG-BLACK-FEMALE-HEADER-VERT(10P-2.54)
designator J?, comment 320030039
MPN: F185-1110A1BSYA1
footprint H10-2.54
pins: 1, 2, 3, 4, 5, 6, 7, 8, 9, 10

## DIP-LONG-BLACK-MALE-HEADER-VERT(10P-2.54)
designator J?, comment 320020120
footprint H10-2.54
pins: 1, 2, 3, 4, 5, 6, 7, 8, 9, 10

## DIP-LONG-BLUE-FEMALE-HEADER(2X3P-2.54)
designator J?, comment 320030066
footprint H2X3-2.54
pins: 1, 2, 3, 4, 5, 6

## DIP-LONG-BLUE-FEMALE-HEADER(6P-2.54)
designator J?, comment 320030067
footprint H6-2.54
pins: 1, 2, 3, 4, 5, 6

## DIP-LONG-BLUE-FEMALE-HEADER(8P-2.54)
designator J?, comment 320030068
footprint H8-2.54
pins: 1, 2, 3, 4, 5, 6, 7, 8

## DIP-LONG-BLUE-FEMALE-HEADER(10P-2.54)
designator J?, comment 320030001
footprint H10-2.54
pins: 1, 2, 3, 4, 5, 6, 7, 8, 9, 10

## DIP-MALE-DB9-CONNECTOR
designator J?, comment 320110017
footprint DSUB9+2P-2.77-90D-MALE
pins: 1, 2, 3, 4, 5, 6, 7, 8, 9, G1 10, G2 11

## DIP-MALE-JST(3P-2.54)
designator J?, comment 320110092
MPN: MC34631
footprint H3-2.54-7.62X5.8MM
pins: 1 P$1, 2 P$2, 3 P$3

## DIP-MALE-SCREW-TERMINAL(2P-5.08-90D)
designator J?, comment 320110008
MPN: GSO001R
footprint H2-5.08-90D-MALE
pins: 1, 2

## DIP-MALE-WITH-DOPOUT-90D-BLACK--CD-ROM(4P-2.54-90D)
designator ?, comment 320110121
MPN: B102-104-B0BBA
footprint H4-2.54-90D-MALE
pins: 1 P$1, 2 P$2, 3 P$3, 4 P$4

## DIP-RJ11-CONNECTOR
designator RJ?, comment 320140002
footprint RJ11--12.2X15X14.5MM
pins: 1, 2, 3, 4, 5, 6

## DIP-RJ45-CONNECTOR(HR911105A)
designator J?, comment 320140005
MPN: HR911105A
footprint RJ45-12+2P-21.3X16.04X13.4MM
pins: G+, G-, GND, NC, P4, P5, RD+, RD-, SHIELD0, SHIELD1, TD+, TD-, Y+, Y-

## DIP-SCREW-TERMINAL(3P-2.54)
designator J?, comment 320110133
MPN: GS019-3P-1
footprint H3-2.54-6X6.3MM
pins: 1, 2, 3

## DIP-SCREW-TERMINAL(3P-3.5)
designator ?, comment 320110007
MPN: GS012-3.5-3P
footprint H3-3.5-11.5X7.0MM
pins: 1, 2, 3

## DIP-SCREW-TERMINAL(5P-2.54)
designator J?, comment 320110145
MPN: GS019-5P-1
footprint H5-2.54-11.06X6.3MM
pins: 1, 2, 3, 4, 5

## DIP-SCREW-TERMINAL(7P-2.54)
designator J?, comment 320110144
MPN: GS019-7P-1
footprint H7-2.54-16.14X6.3MM
pins: 1, 2, 3, 4, 5, 6, 7

## DIP-SCREW-TERMINAL(8P-2.54)
designator J?, comment 320110147
MPN: GS019-8P-1
footprint H8-2.54-18.7X6.3MM
pins: 1, 2, 3, 4, 5, 6, 7, 8

## DIP-SCREW-TERMINAL(9P-2.54)
designator J?, comment 320110143
MPN: GS019-9P-1
footprint H9-2.54-21.22X6.3MM
pins: 1, 2, 3, 4, 5, 6, 7, 8, 9

## DIP-SCREW-TERMINAL-GREEN(2P-2.54-H8.5)
designator CN?, comment 320110130
MPN: GS019-2.54-2P-1
footprint H2-2.54-3.44X6.3MM
pins: 1, 2

## DIP-SCREW-TERMINAL-GREEN(4P-2.54-H8.5)
designator CN?, comment 320110118
MPN: GS019-2.54-4P-1
footprint H4-2.54-8.52X6.3MM
pins: 1, 2, 3, 4

## DIP-SCREW-TERMINAL-GREEN(10P-2.54-H8.5)
designator CN?, comment 320110110
MPN: GS019-2.54-10P-1
footprint H10-2.54-23.06X6.3MM
pins: 1, 2, 3, 4, 5, 6, 7, 8, 9, 10

## DIP-SCREW-TERMINAL-XH2.54-WHITE(6P-2.54)
designator J?, comment 320110039
MPN: XH-2.5-6P
footprint HW6-2.54-12.5X5.9MM
pins: 1, 2, 3, 4, 5, 6

## DIP-USB-A-TYPE-FMAL(4+2P-2.0-90D)
designator JP?, comment 320010007  (value not drawn)
footprint USB4+2P-2.0-90D
part A pins: 1, 2, 3, 4
part B pins: SG1 GND
part C pins: SG2 GND

## DIP-USB-B-TYPE-FMAL(4+2P-2.5-90D)
designator USB?, comment 320010018
MPN: ST-USB-009A
footprint USB4+2-2.5-90D
pins: D+ 3, D- 2, GND S1 S2 4, VBUS 1

## DIP-WHITE-FEMALE-HEADER(6P-2.54)
designator J?, comment 320030063
footprint H6-2.54
pins: 1, 2, 3, 4, 5, 6

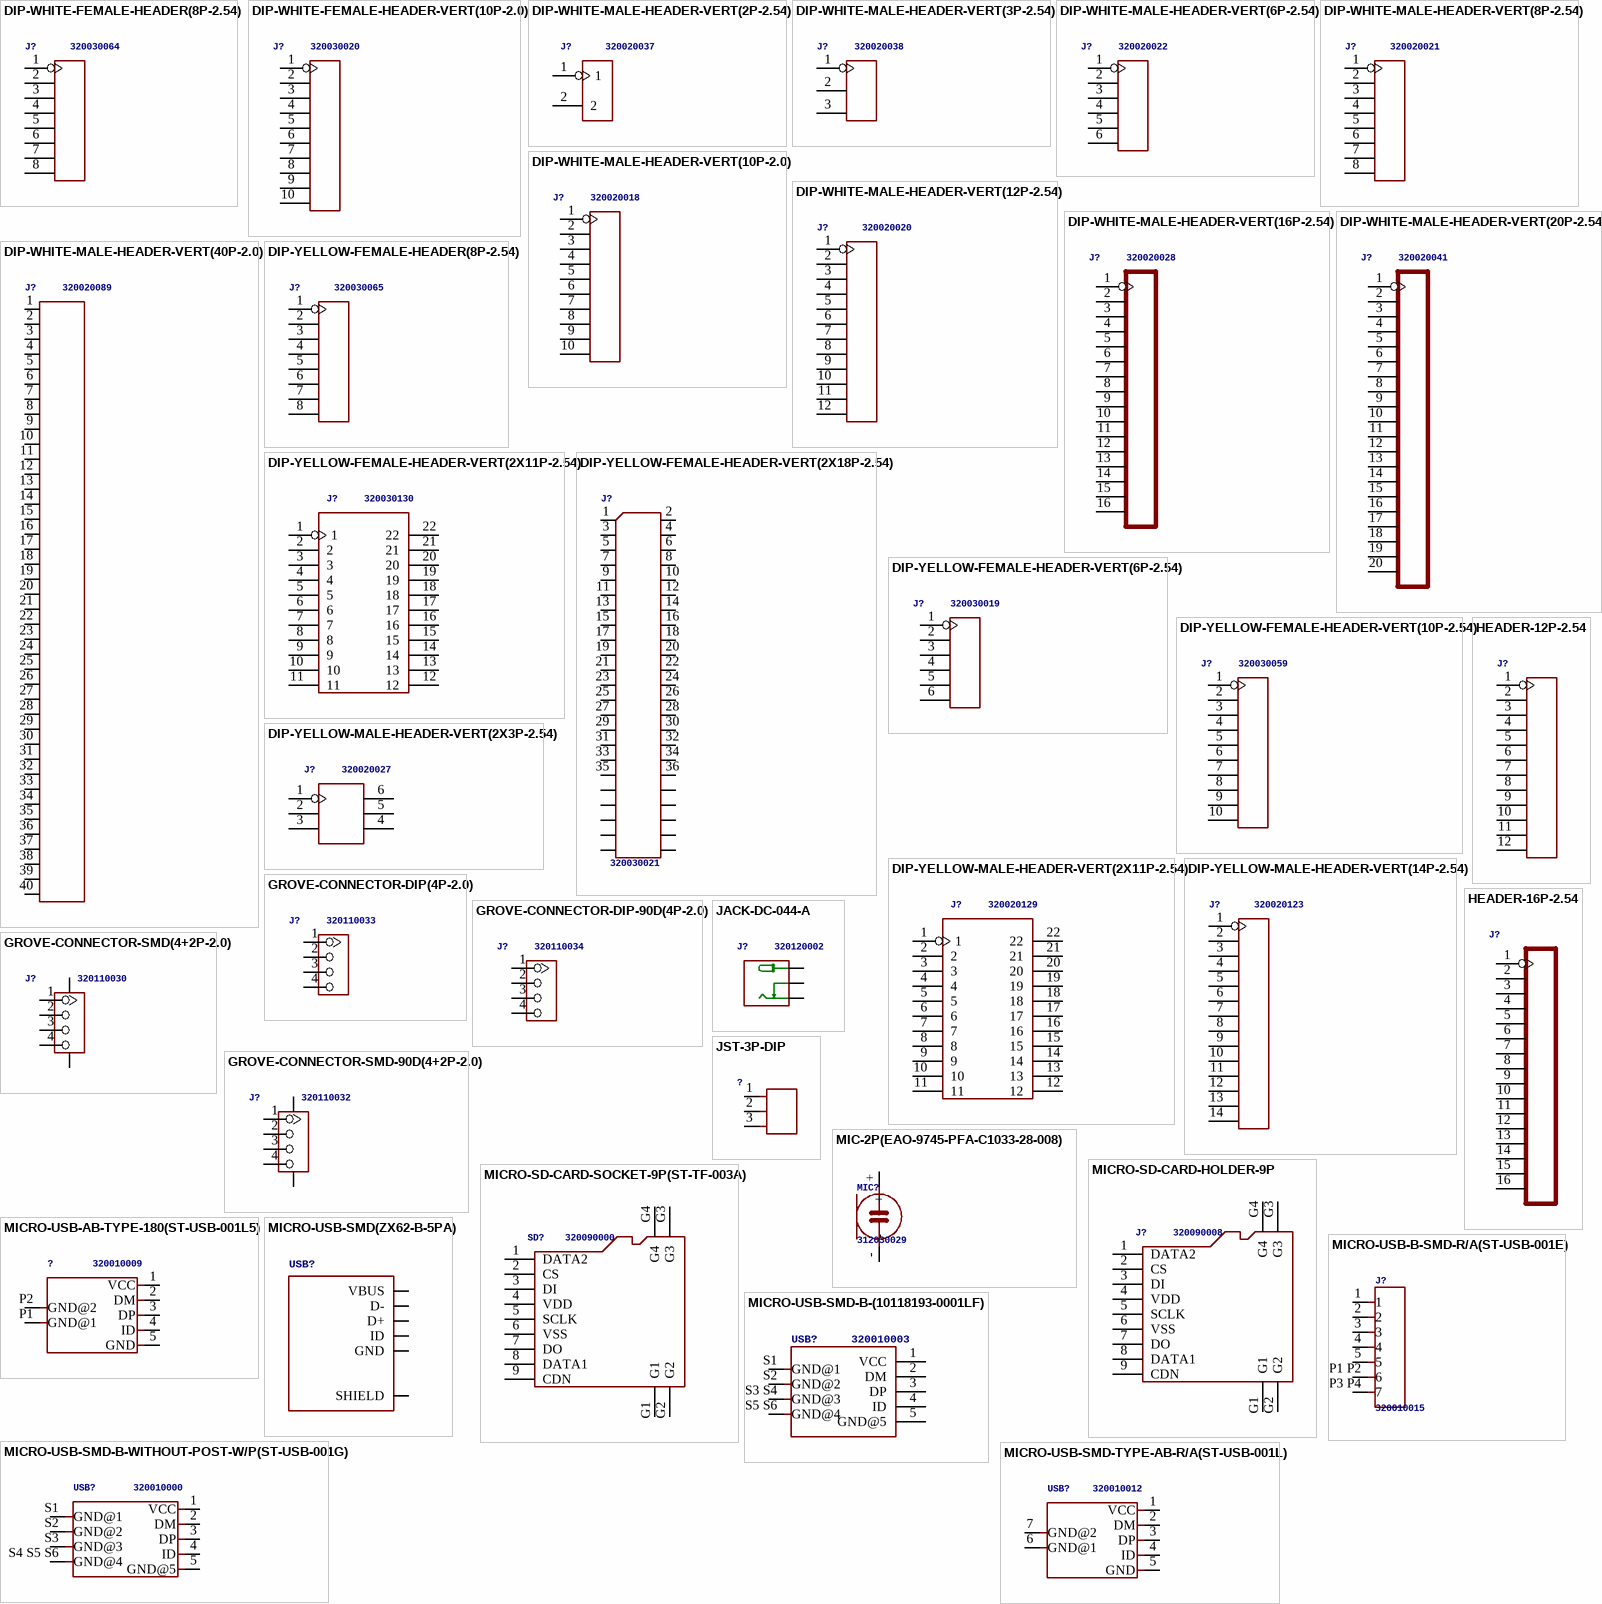
[diagram p5: symbols DIP-WHITE-FEMALE-HEADER(8P-2.54) to MICRO-USB-SMD-TYPE-AB-R/A(ST-USB-001L)]

## DIP-WHITE-FEMALE-HEADER(8P-2.54)
designator J?, comment 320030064
MPN: F185-1108A1BSYC1
footprint H8-2.54
pins: 1, 2, 3, 4, 5, 6, 7, 8

## DIP-WHITE-FEMALE-HEADER-VERT(10P-2.0)
designator J?, comment 320030020
MPN: F243-1110A1BSUA2
footprint H10-2.0
pins: 1, 2, 3, 4, 5, 6, 7, 8, 9, 10

## DIP-WHITE-MALE-HEADER-VERT(2P-2.54)
designator J?, comment 320020037
MPN: P125-1102A0BS116A3
footprint H2-2.54
pins: 1, 2

## DIP-WHITE-MALE-HEADER-VERT(3P-2.54)
designator J?, comment 320020038
MPN: P125-1103A0BS116A1
footprint H3-2.54
pins: 1 P$1, 2 P$2, 3 P$3

## DIP-WHITE-MALE-HEADER-VERT(6P-2.54)
designator J?, comment 320020022
MPN: P125-1106A0BS116A2
footprint H6-2.54
pins: 1, 2, 3, 4, 5, 6

## DIP-WHITE-MALE-HEADER-VERT(8P-2.54)
designator J?, comment 320020021
footprint H8-2.54
pins: 1, 2, 3, 4, 5, 6, 7, 8

## DIP-WHITE-MALE-HEADER-VERT(10P-2.0)
designator J?, comment 320020018
MPN: P220-1110A0BS087A1
footprint H10-2.0
pins: 1, 2, 3, 4, 5, 6, 7, 8, 9, 10

## DIP-WHITE-MALE-HEADER-VERT(12P-2.54)
designator J?, comment 320020020
MPN: P125-1112A0BASYA1
footprint H12-2.54
pins: 1, 2, 3, 4, 5, 6, 7, 8, 9, 10, 11, 12

## DIP-WHITE-MALE-HEADER-VERT(16P-2.54)
designator J?, comment 320020028
MPN: P125-1116A0BS116AX
footprint H16-2.54
pins: 1, 2, 3, 4, 5, 6, 7, 8, 9, 10, 11, 12, 13, 14, 15, 16

## DIP-WHITE-MALE-HEADER-VERT(20P-2.54)
designator J?, comment 320020041
MPN: P125-1120A0BASYA1
footprint H20-2.54
pins: 1, 2, 3, 4, 5, 6, 7, 8, 9, 10, 11, 12, 13, 14, 15, 16, 17, 18, 19, 20

## DIP-WHITE-MALE-HEADER-VERT(40P-2.0)
designator J?, comment 320020089
MPN: P220-1140A0BS087A1
footprint H40-2.0
pins: 1 P$1, 2 P$2, 3 P$3, 4 P$4, 5 P$5, 6 P$6, 7 P$7, 8 P$8, 9 P$9, 10 P$10, 11 P$11, 12 P$12, 13 P$13, 14 P$14, 15 P$15, 16 P$16, 17 P$17, 18 P$18, 19 P$19, 20 P$20, 21 P$21, 22 P$22, 23 P$23, 24 P$24, 25 P$25, 26 P$26, 27 P$27, 28 P$28, 29 P$29, 30 P$30, 31 P$31, 32 P$32, 33 P$33, 34 P$34, 35 P$35, 36 P$36, 37 P$37, 38 P$38, 39 P$39, 40 P$40

## DIP-YELLOW-FEMALE-HEADER(8P-2.54)
designator J?, comment 320030065
MPN: F185-1108A1BSYC1
footprint H8-2.54
pins: 1, 2, 3, 4, 5, 6, 7, 8

## DIP-YELLOW-FEMALE-HEADER-VERT(2X11P-2.54)
designator J?, comment 320030130
MPN: F185-1222A0BSYA1
footprint H2X11-2.54
pins: 1, 2, 3, 4, 5, 6, 7, 8, 9, 10, 11, 12, 13, 14, 15, 16, 17, 18, 19, 20, 21, 22

## DIP-YELLOW-FEMALE-HEADER-VERT(2X18P-2.54)
designator J?, comment 320030021
MPN: F185-1236A0BSYA1
footprint H2X18-2.54
pins: 1 P$1, 2 P$2, 3 P$3, 4 P$4, 5 P$5, 6 P$6, 7 P$7, 8 P$8, 9 P$9, 10 P$10, 11 P$11, 12 P$12, 13 P$13, 14 P$14, 15 P$15, 16 P$16, 17 P$17, 18 P$18, 19 P$19, 20 P$20, 21 P$21, 22 P$22, 23 P$23, 24 P$24, 25 P$25, 26 P$26, 27 P$27, 28 P$28, 29 P$29, 30 P$30, 31 P$31, 32 P$32, 33 P$33, 34 P$34, 35 P$35, 36 P$36, ?1 P$37, ?2 P$38, ?3 P$39, ?4 P$40, ?5 P$41, ?6 P$42, ?7 P$43, ?8 P$44, ?9 P$45, ?10 P$46

## DIP-YELLOW-FEMALE-HEADER-VERT(6P-2.54)
designator J?, comment 320030019
MPN: F185-1106A1BSYA3
footprint H6-2.54
pins: 1, 2, 3, 4, 5, 6

## DIP-YELLOW-FEMALE-HEADER-VERT(10P-2.54)
designator J?, comment 320030059
MPN: F185-1110A1BSYC1
footprint H10-2.54
pins: 1, 2, 3, 4, 5, 6, 7, 8, 9, 10

## DIP-YELLOW-MALE-HEADER-VERT(2X3P-2.54)
designator J?, comment 320020027
MPN: P125-1203A0BS116A2
footprint H2X3-2.54
pins: 1, 2, 3, 4, 5, 6

## DIP-YELLOW-MALE-HEADER-VERT(2X11P-2.54)
designator J?, comment 320020129
MPN: P125-1222A0AS116A1
footprint H2X11-2.54
pins: 1, 2, 3, 4, 5, 6, 7, 8, 9, 10, 11, 12, 13, 14, 15, 16, 17, 18, 19, 20, 21, 22

## DIP-YELLOW-MALE-HEADER-VERT(14P-2.54)
designator J?, comment 320020123
MPN: P125-1114A0BS116AX
footprint H14-2.54
pins: 1, 2, 3, 4, 5, 6, 7, 8, 9, 10, 11, 12, 13, 14

## GROVE-CONNECTOR-DIP(4P-2.0)
designator J?, comment 320110033
footprint HW4-2.0
pins: 1, 2, 3, 4

## GROVE-CONNECTOR-DIP-90D(4P-2.0)
designator J?, comment 320110034
footprint HW4-2.0-90D
pins: 1, 2, 3, 4

## GROVE-CONNECTOR-SMD(4+2P-2.0)
designator J?, comment 320110030
footprint HW4-SMD-2.0
pins: 1, 2, 3, 4, SS1, SS2

## GROVE-CONNECTOR-SMD-90D(4+2P-2.0)
designator J?, comment 320110032
footprint HW4-SMD-2.0-90D
pins: 1, 2, 3, 4, SS1, SS2

## HEADER-12P-2.54
designator J?
footprint H12-2.54
pins: 1, 2, 3, 4, 5, 6, 7, 8, 9, 10, 11, 12

## HEADER-16P-2.54
designator J?
footprint H16-2.54
pins: 1, 2, 3, 4, 5, 6, 7, 8, 9, 10, 11, 12, 13, 14, 15, 16

## JACK-DC-044-A
designator J?, comment 320120002
MPN: JACK-DC-044-A
footprint DCJ3P-11.6X9.6X7.0MM
pins: +, -, CDN

## JST-3P-DIP
designator ?
footprint H3-2.54-7.62X5.8MM
pins: 1 P$1, 2 P$2, 3 P$3

## MIC-2P(EAO-9745-PFA-C1033-28-008)
designator MIC?, comment 312030029
MPN: EAO-9745-PFA-C1033-28-008
footprint MIC2-D9.7XH4.5MM
pins: +, -

## MICRO-SD-CARD-HOLDER-9P
designator J?, comment 320090008
footprint MICRO-SD9+4P-SMD-16.1X14.5X1.85MM
pins: 1 DATA2, 2 CS, 3 DI, 4 VDD, 5 SCLK, 6 VSS, 7 DO, 8 DATA1, 9 CDN, G1, G2, G3, G4

## MICRO-SD-CARD-SOCKET-9P(ST-TF-003A)
designator SD?, comment 320090000
MPN: ST-TF-003A
footprint MICRO-SD9+4P-SMD-16.1X14.5X1.85MM
pins: 1 DATA2, 2 CS, 3 DI, 4 VDD, 5 SCLK, 6 VSS, 7 DO, 8 DATA1, 9 CDN, G1, G2, G3, G4

## MICRO-USB-AB-TYPE-180(ST-USB-001L5)
designator ?, comment 320010009
MPN: ST-USB-001L5
footprint MICRO-USB5+2P-0.65-180D
pins: 1 VCC, 2 DM, 3 DP, 4 ID, 5 GND, P1 GND@1, P2 GND@2

## MICRO-USB-B-SMD-R/A(ST-USB-001E)
designator J?, comment 320010015
MPN: ST-USB-001E
footprint MICRO-USB5+4P-SMD-0.65
pins: 1, 2, 3, 4, 5, P1 P2 6, P3 P4 7

## MICRO-USB-SMD(ZX62-B-5PA)
designator USB?, comment 320010005  (value not drawn)
MPN: ZX62-B-5PA
footprint MICRO-USB5+6P-SMD-0.65-AB
pins: 1 VBUS (oe), 2 D-, 3 D+, 4 ID, 5 GND (oe), P1 P2 P3 P4 P5 P6 SHIELD (oe)

## MICRO-USB-SMD-B-(10118193-0001LF)
designator USB?, comment 320010003
MPN: 10118193-0001LF
footprint MICRO-USB5+6P-SMD-0.65-B
pins: 1 VCC, 2 DM, 3 DP, 4 ID, 5 GND@5, S1 GND@1, S2 GND@2, S3 S4 GND@3, S5 S6 GND@4

## MICRO-USB-SMD-B-WITHOUT-POST-W/P(ST-USB-001G)
designator USB?, comment 320010000
MPN: ST-USB-001G
footprint MICRO-USB5+4P-SMD-0.65-B
pins: 1 VCC, 2 DM, 3 DP, 4 ID, 5 GND@5, S1 GND@1, S2 GND@2, S3 GND@3, S4 S5 S6 GND@4

## MICRO-USB-SMD-TYPE-AB-R/A(ST-USB-001L)
designator USB?, comment 320010012
MPN: ST-USB-001L
footprint MICRO-USB5+2P-SMD-0.65
pins: 1 VCC, 2 DM, 3 DP, 4 ID, 5 GND, 6 GND@1, 7 GND@2

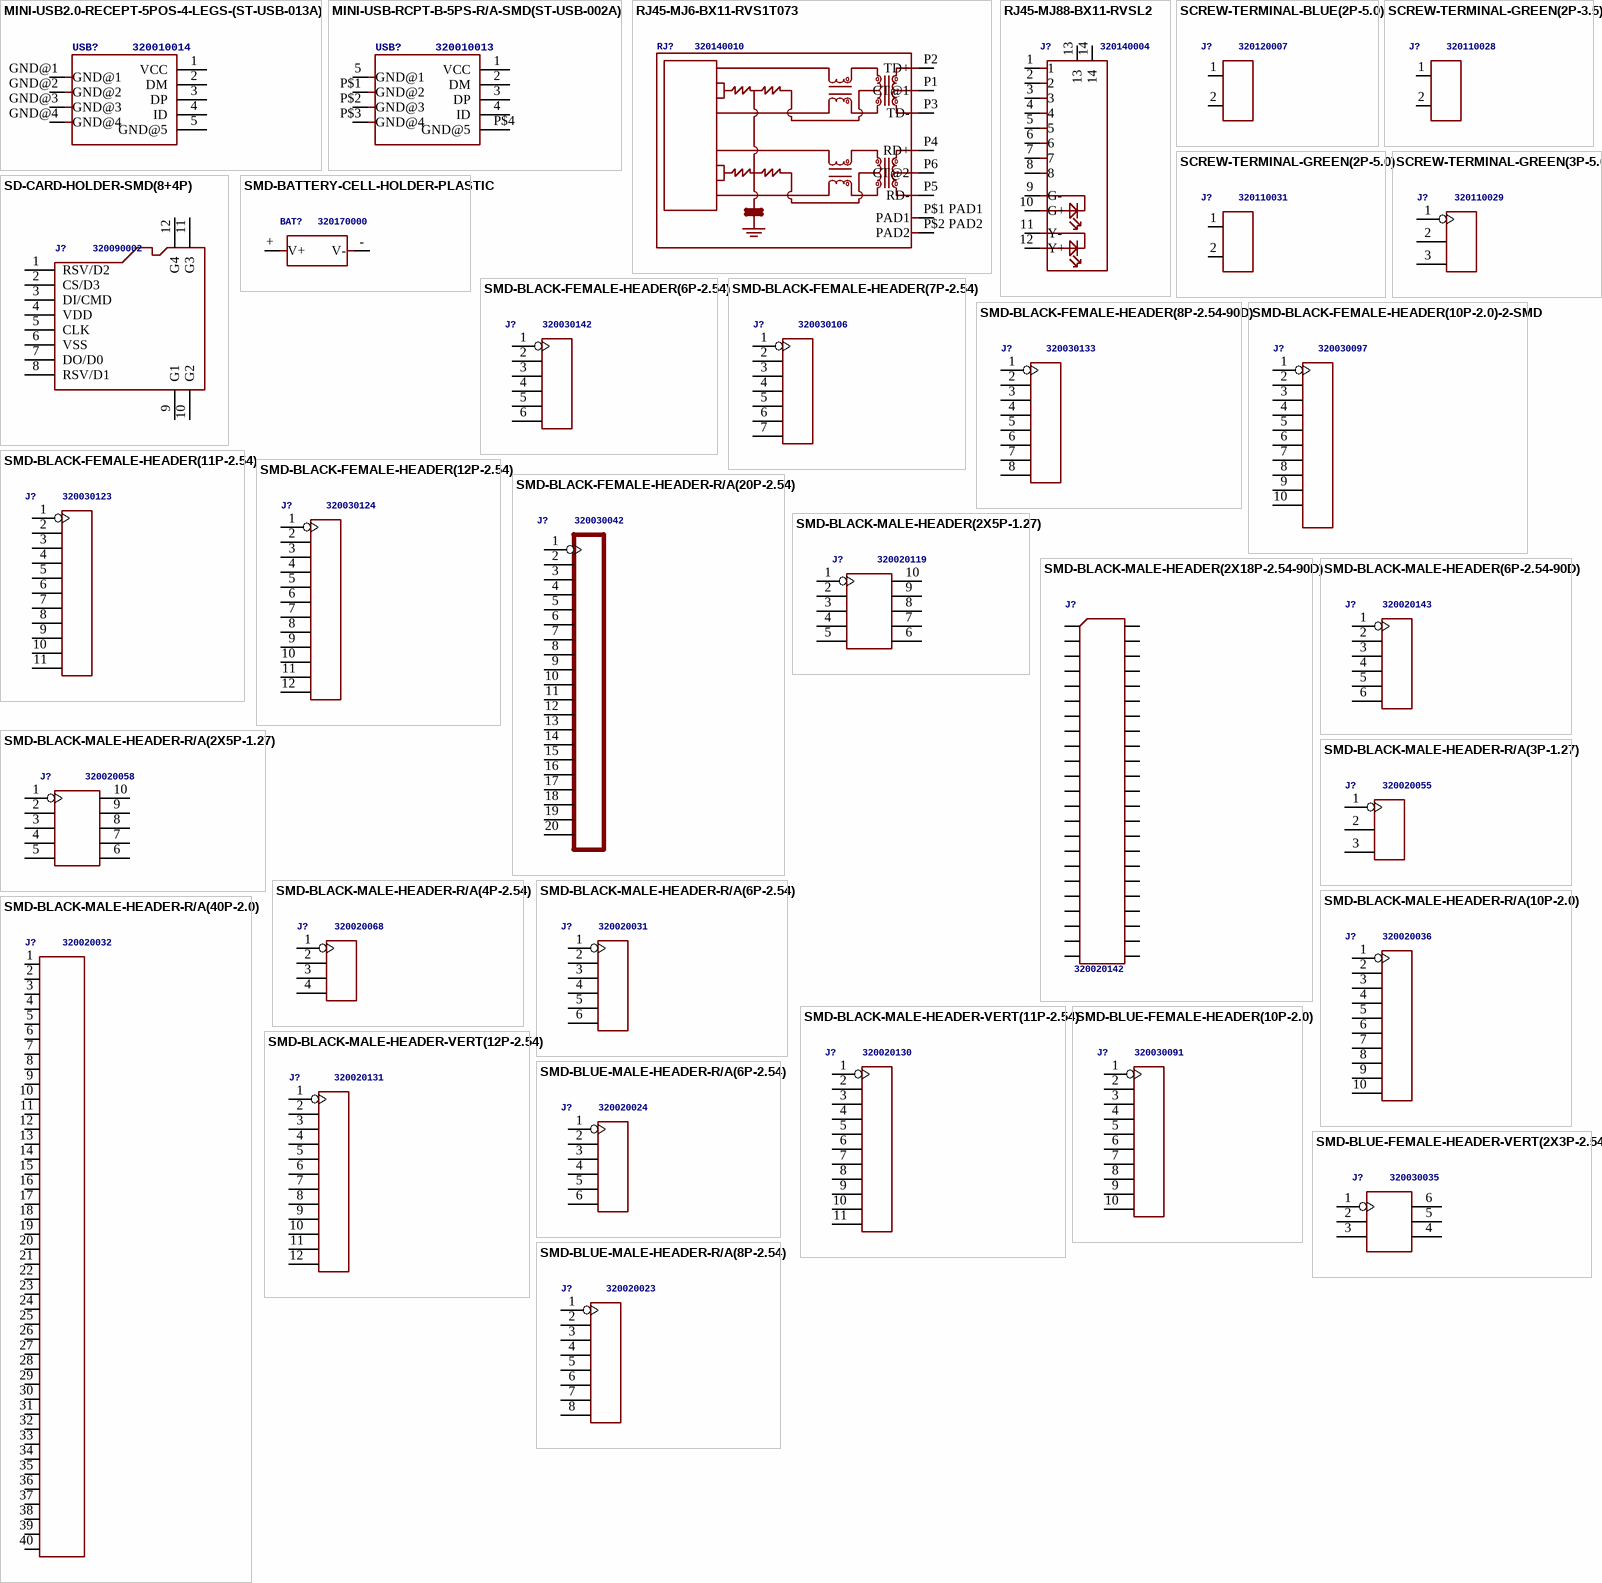
[diagram p6: symbols MINI-USB2.0-RECEPT-5POS-4-LEGS-(ST-USB-013A) to SMD-BLUE-MALE-HEADER-R/A(8P-2.54)]

## MINI-USB2.0-RECEPT-5POS-4-LEGS-(ST-USB-013A)
designator USB?, comment 320010014
MPN: ST-USB-013A
footprint MINIUSB5+4P-0.8-90D
pins: 1 VCC, 2 DM, 3 DP, 4 ID, 5 GND@5, GND@1, GND@2, GND@3, GND@4

## MINI-USB-RCPT-B-5PS-R/A-SMD(ST-USB-002A)
designator USB?, comment 320010013
MPN: ST-USB-002A
footprint MINIUSB5+4P-SMD-0.8-90D
pins: 1 VCC, 2 DM, 3 DP, 4 ID, 5 GND@1, P$1 GND@2, P$2 GND@3, P$3 GND@4, P$4 GND@5

## RJ45-MJ6-BX11-RVS1T073
designator RJ?, comment 320140010
MPN: MJ6-BX11-RVS1T073
footprint RJ45-MJ6-BX11-RVS1T073
pins: P1 CT@1, P2 TD+, P3 TD-, P4 RD+, P5 RD-, P6 CT@2, P$1 PAD1 PAD1, P$2 PAD2 PAD2

## RJ45-MJ88-BX11-RVSL2
designator J?, comment 320140004
MPN: MJ88-BX11-RVSL2
footprint RJ45-12+2P-16.3X15.4X11.5MM-IN
pins: 1, 2, 3, 4, 5, 6, 7, 8, 9 G-, 10 G+, 11 Y-, 12 Y+, 13, 14

## SCREW-TERMINAL-BLUE(2P-5.0)
designator J?, comment 320120007
MPN: GSL009-5.0-02P-12
footprint H2-5.0-10.5X8.0MM
pins: 1, 2

## SCREW-TERMINAL-GREEN(2P-3.5)
designator J?, comment 320110028
footprint H2-3.5-7.0X7.0MM
pins: 1, 2

## SCREW-TERMINAL-GREEN(2P-5.0)
designator J?, comment 320110031
footprint H2-5.0-10.5X8.0MM
pins: 1, 2

## SCREW-TERMINAL-GREEN(3P-5.0)
designator J?, comment 320110029
footprint H3-5.0-15.5X8.0MM
pins: 1 P$1, 2 P$2, 3 P$3

## SD-CARD-HOLDER-SMD(8+4P)
designator J?, comment 320090002
MPN: VSHO-TF08-5501
footprint MICRO-SD8+4P-SMD-14.5X13.6X1.8MM
pins: 1 RSV/D2, 2 CS/D3, 3 DI/CMD, 4 VDD, 5 CLK, 6 VSS, 7 DO/D0, 8 RSV/D1, 9 G1, 10 G2, 11 G3, 12 G4

## SMD-BATTERY-CELL-HOLDER-PLASTIC
designator BAT?, comment 320170000
footprint BAT2P-SMD-16.4-CR1220
pins: + V+, - V-

## SMD-BLACK-FEMALE-HEADER(6P-2.54)
designator J?, comment 320030142
MPN: F185-1106A0BZYB1
footprint H6-SMD-2.54
pins: 1, 2, 3, 4, 5, 6

## SMD-BLACK-FEMALE-HEADER(7P-2.54)
designator J?, comment 320030106
MPN: F171-1107A0BMU01
footprint H7-SMD-2.54
pins: 1, 2, 3, 4, 5, 6, 7

## SMD-BLACK-FEMALE-HEADER(8P-2.54-90D)
designator J?, comment 320030133
MPN: F185-1108A0BZYA1
footprint H8-SMD-2.54-90D
pins: 1, 2, 3, 4, 5, 6, 7, 8

## SMD-BLACK-FEMALE-HEADER(10P-2.0)-2-SMD
designator J?, comment 320030097
footprint HW10-2.0
pins: 1, 2, 3, 4, 5, 6, 7, 8, 9, 10

## SMD-BLACK-FEMALE-HEADER(11P-2.54)
designator J?, comment 320030123
MPN: RF130-1113ABM1162
footprint H11-SMD-2.54
pins: 1, 2, 3, 4, 5, 6, 7, 8, 9, 10, 11

## SMD-BLACK-FEMALE-HEADER(12P-2.54)
designator J?, comment 320030124
MPN: RF130-1123ABM1162
footprint H12-SMD-2.54
pins: 1, 2, 3, 4, 5, 6, 7, 8, 9, 10, 11, 12

## SMD-BLACK-FEMALE-HEADER-R/A(20P-2.54)
designator J?, comment 320030042
MPN: F171-1120AOBMUB1
footprint H20-SMD-2.54
pins: 1, 2, 3, 4, 5, 6, 7, 8, 9, 10, 11, 12, 13, 14, 15, 16, 17, 18, 19, 20

## SMD-BLACK-MALE-HEADER(2X5P-1.27)
designator J?, comment 320020119
MPN: F243-1109A0BMUB2
footprint H2X5-SMD-1.27
pins: 1, 2, 3, 4, 5, 6, 7, 8, 9, 10

## SMD-BLACK-MALE-HEADER(2X18P-2.54-90D)
designator J?, comment 320020142
pins: ?1 P$1, ?2 P$2, ?3 P$3, ?4 P$4, ?5 P$5, ?6 P$6, ?7 P$7, ?8 P$8, ?9 P$9, ?10 P$10, ?11 P$11, ?12 P$12, ?13 P$13, ?14 P$14, ?15 P$15, ?16 P$16, ?17 P$17, ?18 P$18, ?19 P$19, ?20 P$20, ?21 P$21, ?22 P$22, ?23 P$23, ?24 P$24, ?25 P$25, ?26 P$26, ?27 P$27, ?28 P$28, ?29 P$29, ?30 P$30, ?31 P$31, ?32 P$32, ?33 P$33, ?34 P$34, ?35 P$35, ?36 P$36, ?37 P$37, ?38 P$38, ?39 P$39, ?40 P$40, ?41 P$41, ?42 P$42, ?43 P$43, ?44 P$44, ?45 P$45, ?46 P$46

## SMD-BLACK-MALE-HEADER(6P-2.54-90D)
designator J?, comment 320020143
footprint H6-SMD-MALE-2.54-90D
pins: 1, 2, 3, 4, 5, 6

## SMD-BLACK-MALE-HEADER-R/A(2X5P-1.27)
designator J?, comment 320020058
MPN: P310-1210A0BMSYC3
footprint H2X5-SMD-1.27
pins: 1, 2, 3, 4, 5, 6, 7, 8, 9, 10

## SMD-BLACK-MALE-HEADER-R/A(3P-1.27)
designator J?, comment 320020055
MPN: P310-1103A0BM116A1
footprint H3-SMD-1.27
pins: 1 P$1, 2 P$2, 3 P$3

## SMD-BLACK-MALE-HEADER-R/A(4P-2.54)
designator J?, comment 320020068
MPN: P125-1104A0BMB116D1
footprint H4-SMD-2.54
pins: 1 P$1, 2 P$2, 3 P$3, 4 P$4

## SMD-BLACK-MALE-HEADER-R/A(6P-2.54)
designator J?, comment 320020031
footprint H6-SMD-2.54
pins: 1, 2, 3, 4, 5, 6

## SMD-BLACK-MALE-HEADER-R/A(10P-2.0)
designator J?, comment 320020036
MPN: P120-1110A0BMB116D2
footprint H10-SMD-2.0
pins: 1, 2, 3, 4, 5, 6, 7, 8, 9, 10

## SMD-BLACK-MALE-HEADER-R/A(40P-2.0)
designator J?, comment 320020032
MPN: P125-1140B0BA1
footprint H40-SMD-2.0
pins: 1 P$1, 2 P$2, 3 P$3, 4 P$4, 5 P$5, 6 P$6, 7 P$7, 8 P$8, 9 P$9, 10 P$10, 11 P$11, 12 P$12, 13 P$13, 14 P$14, 15 P$15, 16 P$16, 17 P$17, 18 P$18, 19 P$19, 20 P$20, 21 P$21, 22 P$22, 23 P$23, 24 P$24, 25 P$25, 26 P$26, 27 P$27, 28 P$28, 29 P$29, 30 P$30, 31 P$31, 32 P$32, 33 P$33, 34 P$34, 35 P$35, 36 P$36, 37 P$37, 38 P$38, 39 P$39, 40 P$40

## SMD-BLACK-MALE-HEADER-VERT(11P-2.54)
designator J?, comment 320020130
MPN: P125-1111A0BMB116D2
footprint H11-SMD-2.54
pins: 1, 2, 3, 4, 5, 6, 7, 8, 9, 10, 11

## SMD-BLACK-MALE-HEADER-VERT(12P-2.54)
designator J?, comment 320020131
MPN: P125-1112A0BMB116D2
footprint H12-SMD-2.54
pins: 1, 2, 3, 4, 5, 6, 7, 8, 9, 10, 11, 12

## SMD-BLUE-FEMALE-HEADER(10P-2.0)
designator J?, comment 320030091
MPN: F243-1110A0BMFC1
footprint H10-SMD-2.0
pins: 1, 2, 3, 4, 5, 6, 7, 8, 9, 10

## SMD-BLUE-FEMALE-HEADER-VERT(2X3P-2.54)
designator J?, comment 320030035
MPN: F185-1203A1BMYA1
footprint H2X3-SMD-2.54
pins: 1, 2, 3, 4, 5, 6

## SMD-BLUE-MALE-HEADER-R/A(6P-2.54)
designator J?, comment 320020024
MPN: P125-1106B0BA2
footprint H6-SMD-2.54
pins: 1, 2, 3, 4, 5, 6

## SMD-BLUE-MALE-HEADER-R/A(8P-2.54)
designator J?, comment 320020023
MPN: P125-1108B0BA2
footprint H8-SMD-2.54
pins: 1, 2, 3, 4, 5, 6, 7, 8

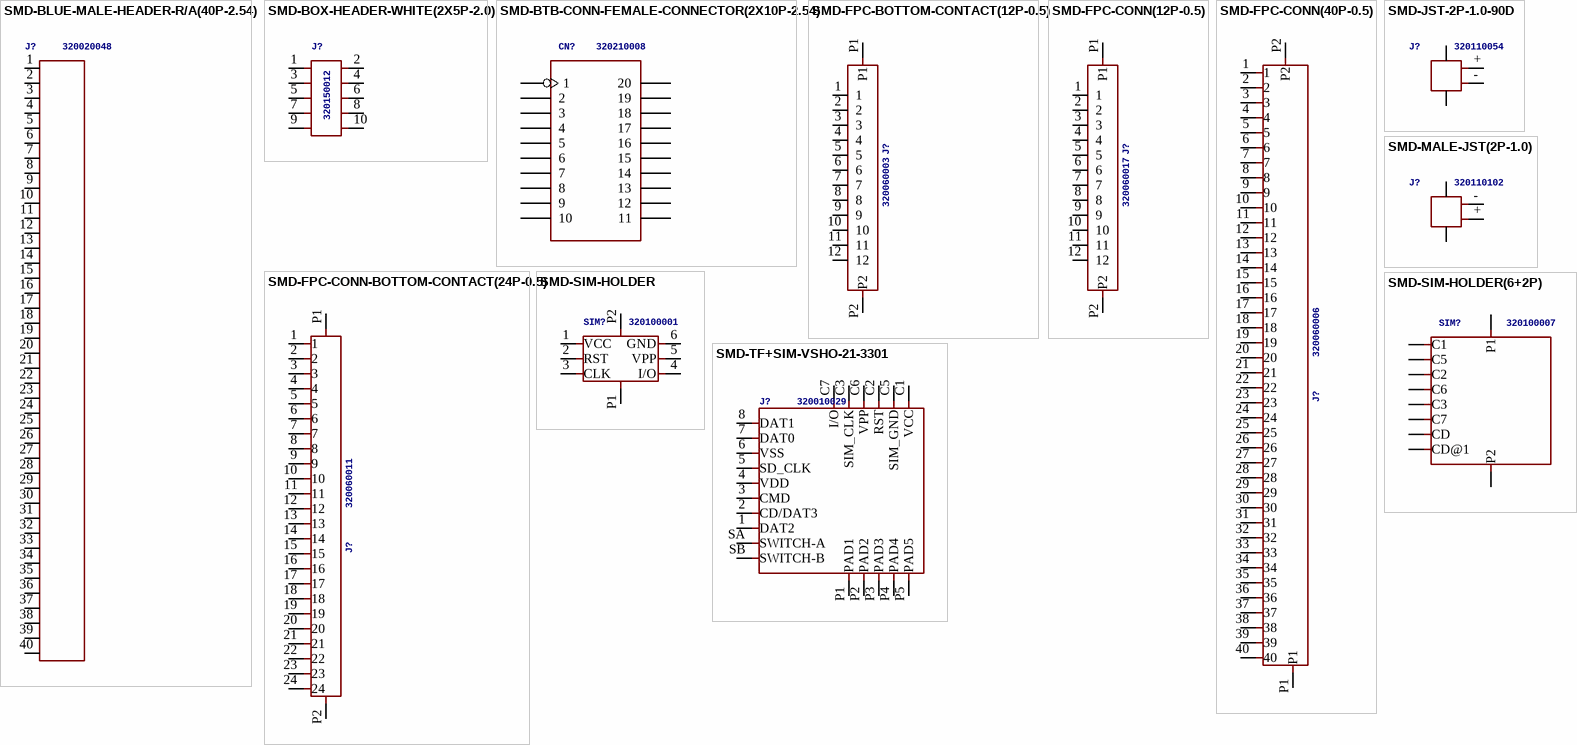
[diagram p7: symbols SMD-BLUE-MALE-HEADER-R/A(40P-2.54) to SMD-TF+SIM-VSHO-21-3301]

## SMD-BLUE-MALE-HEADER-R/A(40P-2.54)
designator J?, comment 320020048
MPN: P125-1140A0BMB116D2
footprint H40-SMD-2.54
pins: 1 P$1, 2 P$2, 3 P$3, 4 P$4, 5 P$5, 6 P$6, 7 P$7, 8 P$8, 9 P$9, 10 P$10, 11 P$11, 12 P$12, 13 P$13, 14 P$14, 15 P$15, 16 P$16, 17 P$17, 18 P$18, 19 P$19, 20 P$20, 21 P$21, 22 P$22, 23 P$23, 24 P$24, 25 P$25, 26 P$26, 27 P$27, 28 P$28, 29 P$29, 30 P$30, 31 P$31, 32 P$32, 33 P$33, 34 P$34, 35 P$35, 36 P$36, 37 P$37, 38 P$38, 39 P$39, 40 P$40

## SMD-BOX-HEADER-WHITE(2X5P-2.0)
designator J?, comment 320150012
MPN: B257-110B0BMBB
footprint BOX2X5-SMD-2.0
pins: 1 P$1, 2 P$2, 3 P$3, 4 P$4, 5 P$5, 6 P$6, 7 P$7, 8 P$8, 9 P$9, 10 P$10

## SMD-BTB-CONN-FEMALE-CONNECTOR(2X10P-2.54)
designator CN?, comment 320210008
pins: ?1 1, ?2 2, ?3 3, ?4 4, ?5 5, ?6 6, ?7 7, ?8 8, ?9 9, ?10 10, ?11 11, ?12 12, ?13 13, ?14 14, ?15 15, ?16 16, ?17 17, ?18 18, ?19 19, ?20 20

## SMD-FPC-BOTTOM-CONTACT(12P-0.5)
designator J?, comment 320060003
MPN: FH12-12S-0.5SH(55)
footprint FPCE12P-SMD-0.5-90D
pins: 1, 2, 3, 4, 5, 6, 7, 8, 9, 10, 11, 12, P1, P2

## SMD-FPC-CONN(12P-0.5)
designator J?, comment 320060017
MPN: 0.5K-AX-12PWB
footprint FPCE12P-SMD-0.5-90D
pins: 1, 2, 3, 4, 5, 6, 7, 8, 9, 10, 11, 12, P1, P2

## SMD-FPC-CONN(40P-0.5)
designator J?, comment 320060006
MPN: 5922-4P-60P-0HD1R
footprint FPCE40-SMD-0.5-90D
pins: 1, 2, 3, 4, 5, 6, 7, 8, 9, 10, 11, 12, 13, 14, 15, 16, 17, 18, 19, 20, 21, 22, 23, 24, 25, 26, 27, 28, 29, 30, 31, 32, 33, 34, 35, 36, 37, 38, 39, 40, P1, P2

## SMD-FPC-CONN-BOTTOM-CONTACT(24P-0.5)
designator J?, comment 320060011
MPN: FH12F-24S-0.5SH
footprint FPCB24-SMD-0.5-90D
pins: 1, 2, 3, 4, 5, 6, 7, 8, 9, 10, 11, 12, 13, 14, 15, 16, 17, 18, 19, 20, 21, 22, 23, 24, P1, P2

## SMD-JST-2P-1.0-90D
designator J?, comment 320110054
footprint HW2-SMD-1.0-90D
pins: 3, 4, + 1, - 2

## SMD-MALE-JST(2P-1.0)
designator J?, comment 320110102
MPN: BM02B-SRSS-TB
footprint HW2-SMD-1.0
pins: 3, 4, + 2, - 1

## SMD-SIM-HOLDER
designator SIM?, comment 320100001
MPN: ST-SIM-004B
footprint SIM6+2P-SMD-16.4X16.3X1.8MM
pins: 1 VCC, 2 RST, 3 CLK, 4 I/O, 5 VPP, 6 GND, P1 7, P2 8

## SMD-SIM-HOLDER(6+2P)
designator SIM?, comment 320100007
footprint SIM6+2P-26.3X19.35X1.8MM
pins: 1 C1, 2 C5, 3 C2, 4 C6, 5 C3, 6 C7, 7 CD, 8 CD@1, P1, P2

## SMD-TF+SIM-VSHO-21-3301
designator J?, comment 320010029
MPN: VSHO-21-3301
footprint SD+SIM-16+4P-17.4X16.5X2.7MM
pins: 1 DAT2, 2 CD/DAT3, 3 CMD, 4 VDD, 5 SD_CLK, 6 VSS, 7 DAT0, 8 DAT1, C1 VCC, C2 RST, C3 SIM_CLK, C5 SIM_GND, C6 VPP, C7 I/O, P1 PAD1, P2 PAD2, P3 PAD3, P4 PAD4, P5 PAD5, SA SWITCH-A, SB SWITCH-B